# Altium integrated library ISEN_basics_15-02-2023.IntLib: 282 symbols (part 1 of 2)
Pins are listed as number, name and electrical type; pins without a type are passive.

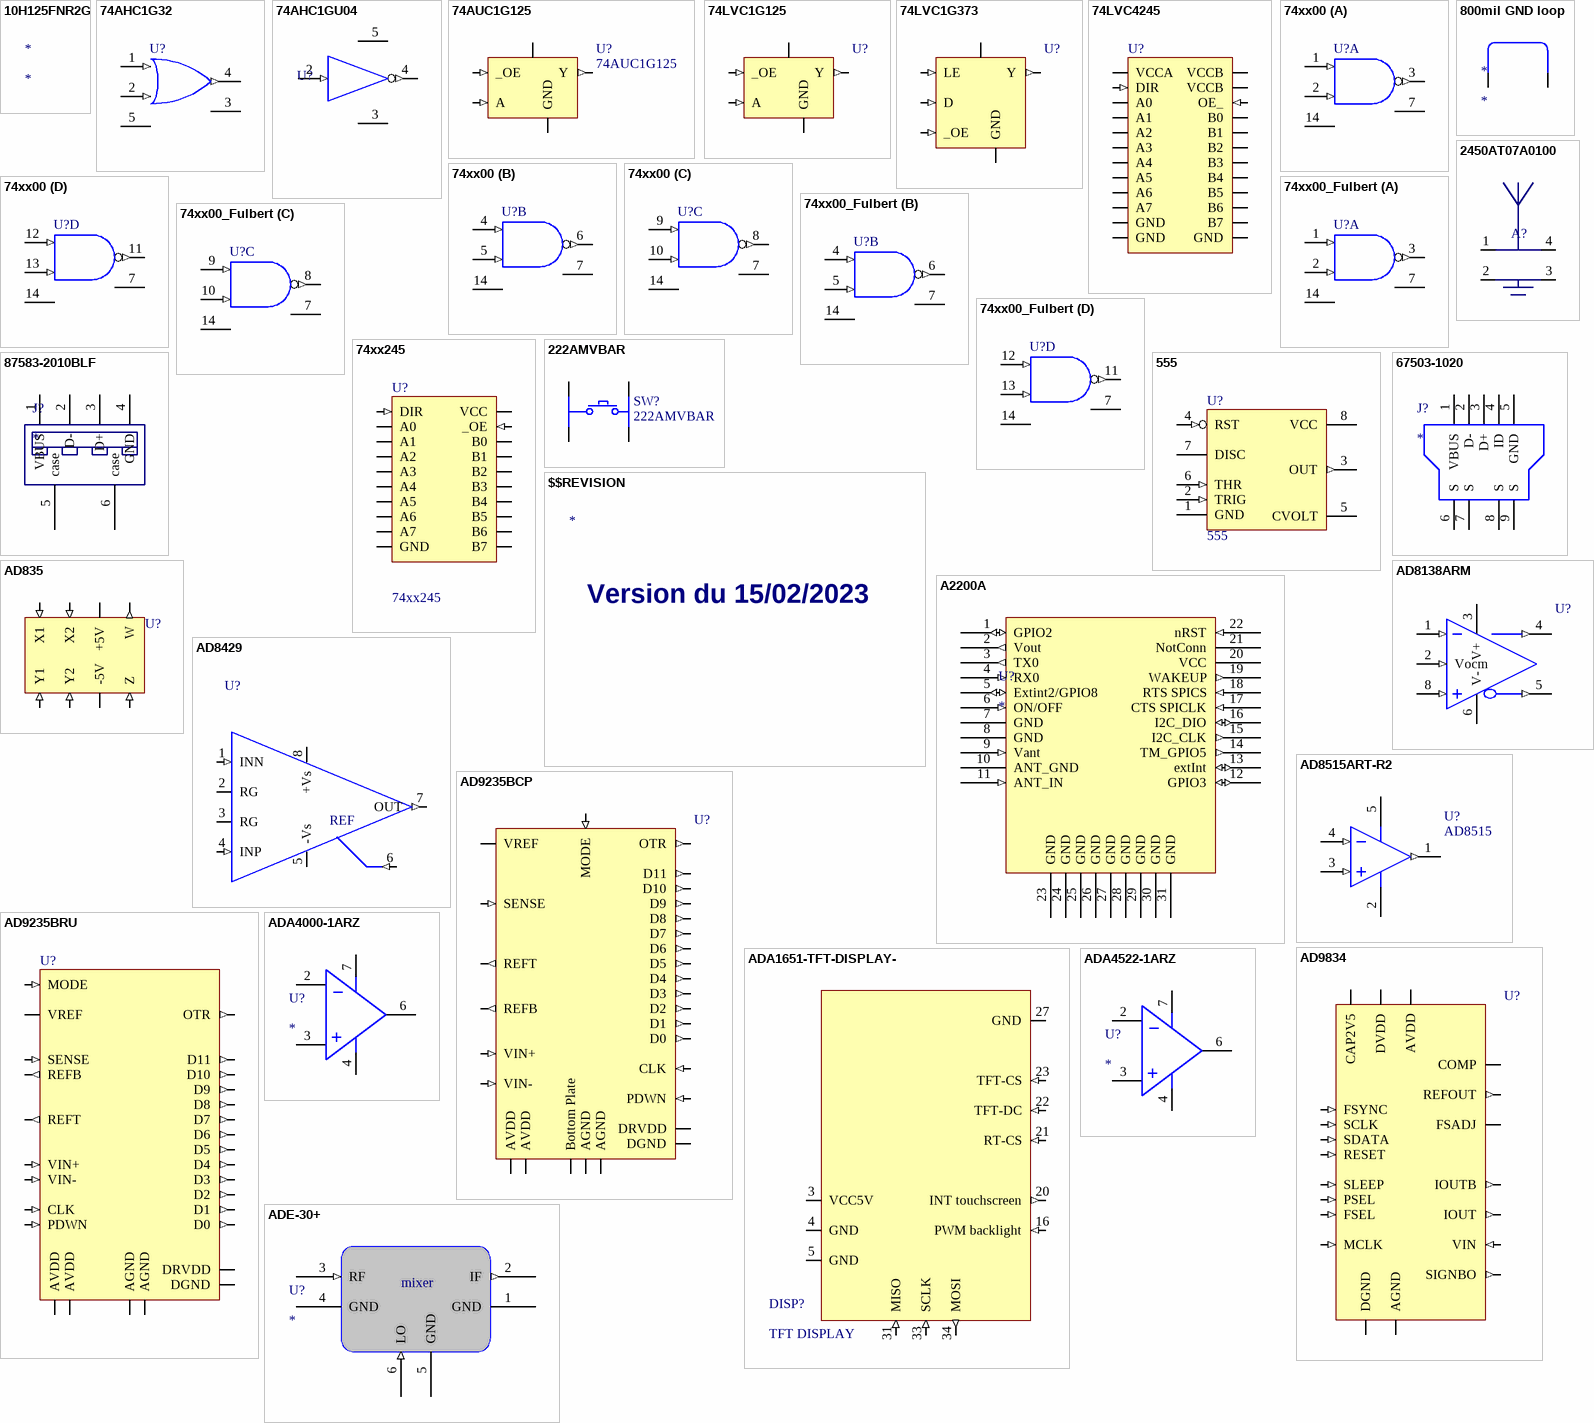
[diagram p0: symbols 10H125FNR2G to ADE-30+]

## 10H125FNR2G
designator *

## 74AHC1G32
designator U?
single 2-Input OR Gate; Manufacturer: Texas Instruments; Class I: Logic; Published: 8-Jun-2000; Revision: July-2002: Re-released for DXP Platform.; Datasheet: Latest Revision: Mar-1988; Package Reference: J014; Publisher: Altium Limited; Class II: Gate
footprint SOT353-1
pins: 1 A (in), 2 B (in), 3 GND (power) hidden to GND, 4 Y (out), 5 VCC (power) hidden to VCC

## 74AHC1GU04
designator U?
single inverter; Manufacturer: Texas Instruments; Class I: Logic; Class II: Gate; Published: 8-Jun-2000; Revision: July-2002: Re-released for DXP Platform.; Datasheet: Latest Revision: Mar-1988; Package Reference: J014; Publisher: Altium Limited
footprint SOT353-1
pins: 2 B (in), 3 GND (power) hidden to GND, 4 Y (out), 5 VCC (power) hidden to VCC

## 74AUC1G125
designator U?
footprint sc70
footprint sot23 - 5
pins: 1 _OE (in), 2 A (in), 3 GND (power), 4 Y (out), 5 VCC (power)

## 74LVC1G125
designator U?
footprint SOT353-1
footprint SOT25
pins: 1 _OE (in), 2 A (in), 3 GND (power), 4 Y (out), 5 VCC (power)

## 74LVC1G373
designator U?
footprint TI_DCK6
pins: 1 LE (in), 2 GND (power), 3 D (in), 4 Y (out), 5 VCC (power), 6 _OE (in)

## 74LVC4245
designator U?
footprint SO24
pins: 1 VCCA (power), 2 DIR (in), 3 A0 (io), 4 A1 (io), 5 A2 (io), 6 A3 (io), 7 A4 (io), 8 A5 (io), 9 A6 (io), 10 A7 (io), 11 GND (power), 12 GND (power), 13 GND (power), 14 B7 (io), 15 B6 (io), 16 B5 (io), 17 B4 (io), 18 B3 (io), 19 B2 (io), 20 B1 (io), 21 B0 (io), 22 OE_ (in), 23 VCCB (power), 24 VCCB (power)

## 74xx00
designator U?
Quadruple 2-Input Positive-NAND Gate; Manufacturer: Texas Instruments; Class I: Logic; Published: 8-Jun-2000; Revision: July-2002: Re-released for DXP Platform.; Datasheet: Latest Revision: Mar-1988; Package Reference: J014; Publisher: Altium Limited; Class II: Gate
footprint DIP14
signal-integrity model SN5400J
footprint SO14
footprint TSSOP14
pins on every part: 7 GND (power) hidden to GND, 14 VCC (power) hidden to VCC
part A pins: 1 A (in), 2 B (in), 3 Y (out)
part B pins: 4 A (in), 5 B (in), 6 Y (out)
part C pins: 8 Y (out), 9 A (in), 10 B (in)
part D pins: 11 Y (out), 12 A (in), 13 B (in)

## 74xx00_Fulbert
designator U?
Quadruple 2-Input Positive-NAND Gate; Manufacturer: Texas Instruments; Class I: Logic; Published: 8-Jun-2000; Revision: July-2002: Re-released for DXP Platform.; Datasheet: Latest Revision: Mar-1988; Package Reference: J014; Publisher: Altium Limited; Class II: Gate
footprint DIP14
signal-integrity model SN5400J
footprint SO14
footprint TSSOP14
pins on every part: 7 GND (power) hidden to GND, 14 VDD2V5 (power) hidden to VCC
part A pins: 1 A (in), 2 B (in), 3 Y (out)
part B pins: 4 A (in), 5 B (in), 6 Y (out)
part C pins: 8 Y (out), 9 A (in), 10 B (in)
part D pins: 11 Y (out), 12 A (in), 13 B (in)

## 74xx245
designator U?
footprint SO20
pins: 1 DIR (in), 2 A0 (io), 3 A1 (io), 4 A2 (io), 5 A3 (io), 6 A4 (io), 7 A5 (io), 8 A6 (io), 9 A7 (io), 10 GND (power), 11 B7 (io), 12 B6 (io), 13 B5 (io), 14 B4 (io), 15 B3 (io), 16 B2 (io), 17 B1 (io), 18 B0 (io), 19 _OE (in), 20 VCC (power)

## 222AMVBAR
designator SW?
footprint 222AMVBAR
pins: 1, 2, 3, 4

## 555
designator U?
timer 555 générique
footprint DIP8
footprint SO8
pins: 1 GND (power), 2 TRIG (in), 3 OUT (out), 4 RST (in), 5 CVOLT, 6 THR (in), 7 DISC (oc), 8 VCC (power)

## 800mil GND loop
designator *
footprint 800MIL_GND_LOOP
pins: 1, 2

## 2450AT07A0100
designator A?  (value not drawn)
footprint 2450AT07A0100
pins: 1, 2, 3, 4

## 67503-1020
designator J?
Connector; Manufacturer_Name: Molex; Manufacturer_Part_Number: 67503-1020; Datasheet Link: http://docs-emea.rs-online.com/webdocs/13c4/0900766b813c46de.pdf; Mouser Part Number: 538-67503-1020; Mouser Price/Stock: https://www.mouser.com/Search/Refine.aspx?Keyword=538-67503-1020; RS Part Number: 6661099P; RS Price/Stock: http://uk.rs-online.com/web/p/products/6661099P
footprint 67503-1020
pins: 1 VBUS, 2 D-, 3 D+, 4 ID, 5 GND, 6 S, 7 S, 8 S, 9 S

## 87583-2010BLF
designator J?
Connector; Manufacturer_Name: FCI; Manufacturer_Part_Number: 87583-2010BLF; Allied_Number: 70236897; Datasheet Link: http://docs-emea.rs-online.com/webdocs/118e/0900766b8118e6e2.pdf; Mouser Part Number: 649-87583-2010BLF; Mouser Price/Stock: https://www.mouser.com/Search/Refine.aspx?Keyword=649-87583-2010BLF; RS Part Number: 1622060; RS Price/Stock: http://uk.rs-online.com/web/p/products/1622060; Allied Price/Stock: http://www.alliedelec.com/amphenol-fci-87583-2010blf/70236897/
footprint 87583-2010BLF
pins: 1 VBUS, 2 D-, 3 D+, 4 GND, 5 case, 6 case

## $$REVISION
designator *
text: Version du 15/02/2023

## A2200A
designator U?
GPS MODULE (w/o antenna)
footprint A2200A
pins: 1 GPIO2 (io), 2 Vout (out), 3 TX0 (out), 4 RX0 (in), 5 Extint2/GPIO8 (io), 6 ON/OFF (in), 7 GND (power), 8 GND (power), 9 Vant (in), 10 ANT_GND (power), 11 ANT_IN (in), 12 GPIO3 (io), 13 extInt (io), 14 TM_GPIO5 (out), 15 I2C_CLK (out), 16 I2C_DIO (io), 17 CTS SPICLK (in), 18 RTS SPICS (in), 19 WAKEUP (out), 20 VCC (power), 21 NotConn, 22 nRST (in), 23 GND (power), 24 GND (power), 25 GND (power), 26 GND (power), 27 GND (power), 28 GND (power), 29 GND (power), 30 GND (power), 31 GND (power)

## AD835
designator U?
analog multiplier
footprint dip8
pins: 1 Y1 (in), 2 Y2 (in), 3 -5V, 4 Z (in), 5 W (out), 6 +5V, 7 X2 (in), 8 X1 (in)

## AD8138ARM
designator U?
AOP simple usage général
footprint MSOP8
pins: 1 (in), 2 Vocm (in), 3 V+ (power), 4 (out), 5 (out), 6 V- (power), 8 (in)

## AD8429
designator U?  (value not drawn)
differential amplifier
footprint AnalogDevices_R8
pins: 1 INN (in), 2 RG, 3 RG, 4 INP (in), 5 -Vs (power), 6 (in), 7 OUT (out), 8 +Vs (power)
text: REF

## AD8515ART-R2
designator U?, comment AD8515
AOP simple usage général
footprint SOT23 - 5
pins: 1 OUT (out), 2 V- (power), 3 IN+ (in), 4 IN- (in), 5 V+ (power)

## AD9235BCP
designator U?
footprint CP-32-2
pins: 2 CLK (in), 4 PDWN (in), 7 D0 (out), 8 D1 (out), 9 D2 (out), 10 D3 (out), 11 D4 (out), 12 D5 (out), 13 D6 (out), 14 D7 (out), 15 DGND (power), 16 DRVDD (power), 17 D8 (out), 18 D9 (out), 19 D10 (out), 20 D11 (out), 21 OTR (out), 22 MODE (in), 23 SENSE (in), 24 VREF (io), 25 REFB (out), 26 REFT (out), 27 AVDD (power), 28 AGND (power), 29 VIN+ (in), 30 VIN- (in), 31 AGND (power), 32 AVDD (power), 33 Bottom Plate

## AD9235BRU
designator U?
footprint SSOP28
pins: 1 OTR (out), 2 MODE (in), 3 SENSE (in), 4 VREF (io), 5 REFB (out), 6 REFT (out), 7 AVDD (power), 8 AGND (power), 9 VIN+ (in), 10 VIN- (in), 11 AGND (power), 12 AVDD (power), 13 CLK (in), 14 PDWN (in), 15 D0 (out), 16 D1 (out), 17 D2 (out), 18 D3 (out), 19 D4 (out), 20 D5 (out), 21 D6 (out), 22 D7 (out), 23 DGND (power), 24 DRVDD (power), 25 D8 (out), 26 D9 (out), 27 D10 (out), 28 D11 (out)

## AD9834
designator U?
DDS
footprint TSSOP20
pins: 1 FSADJ, 2 REFOUT (out), 3 COMP, 4 AVDD, 5 DVDD, 6 CAP2V5, 7 DGND, 8 MCLK (in), 9 FSEL (in), 10 PSEL (in), 11 RESET (in), 12 SLEEP (in), 13 SDATA (in), 14 SCLK (in), 15 FSYNC (in), 16 SIGNBO (out), 17 VIN (in), 18 AGND, 19 IOUT (out), 20 IOUTB (out)

## ADA1651-TFT-DISPLAY-
designator DISP?, comment TFT DISPLAY
footprint AFFICHEUR-TFT
pins: 3 VCC5V (power), 4 GND (power), 5 GND (power), 16 PWM backlight (in), 20 INT touchscreen (out), 21 RT-CS (in), 22 TFT-DC (in), 23 TFT-CS (in), 27 GND (power), 31 MISO (in), 33 SCLK (in), 34 MOSI (out)

## ADA4000-1ARZ
designator U?
footprint AnalogDevices_R8
pins: 2, 3, 4 V- (power), 6, 7 V+ (power)

## ADA4522-1ARZ
designator U?
footprint AnalogDevices_R8
pins: 2, 3, 4 V- (power), 6, 7 V+ (power)

## ADE-30+
designator U?
200MHz-3GHz mixer
footprint minicircuits-CD542
pins: 1 GND (power), 2 IF (out), 3 RF (in), 4 GND (power), 5 GND (power), 6 LO (in)
text: mixer

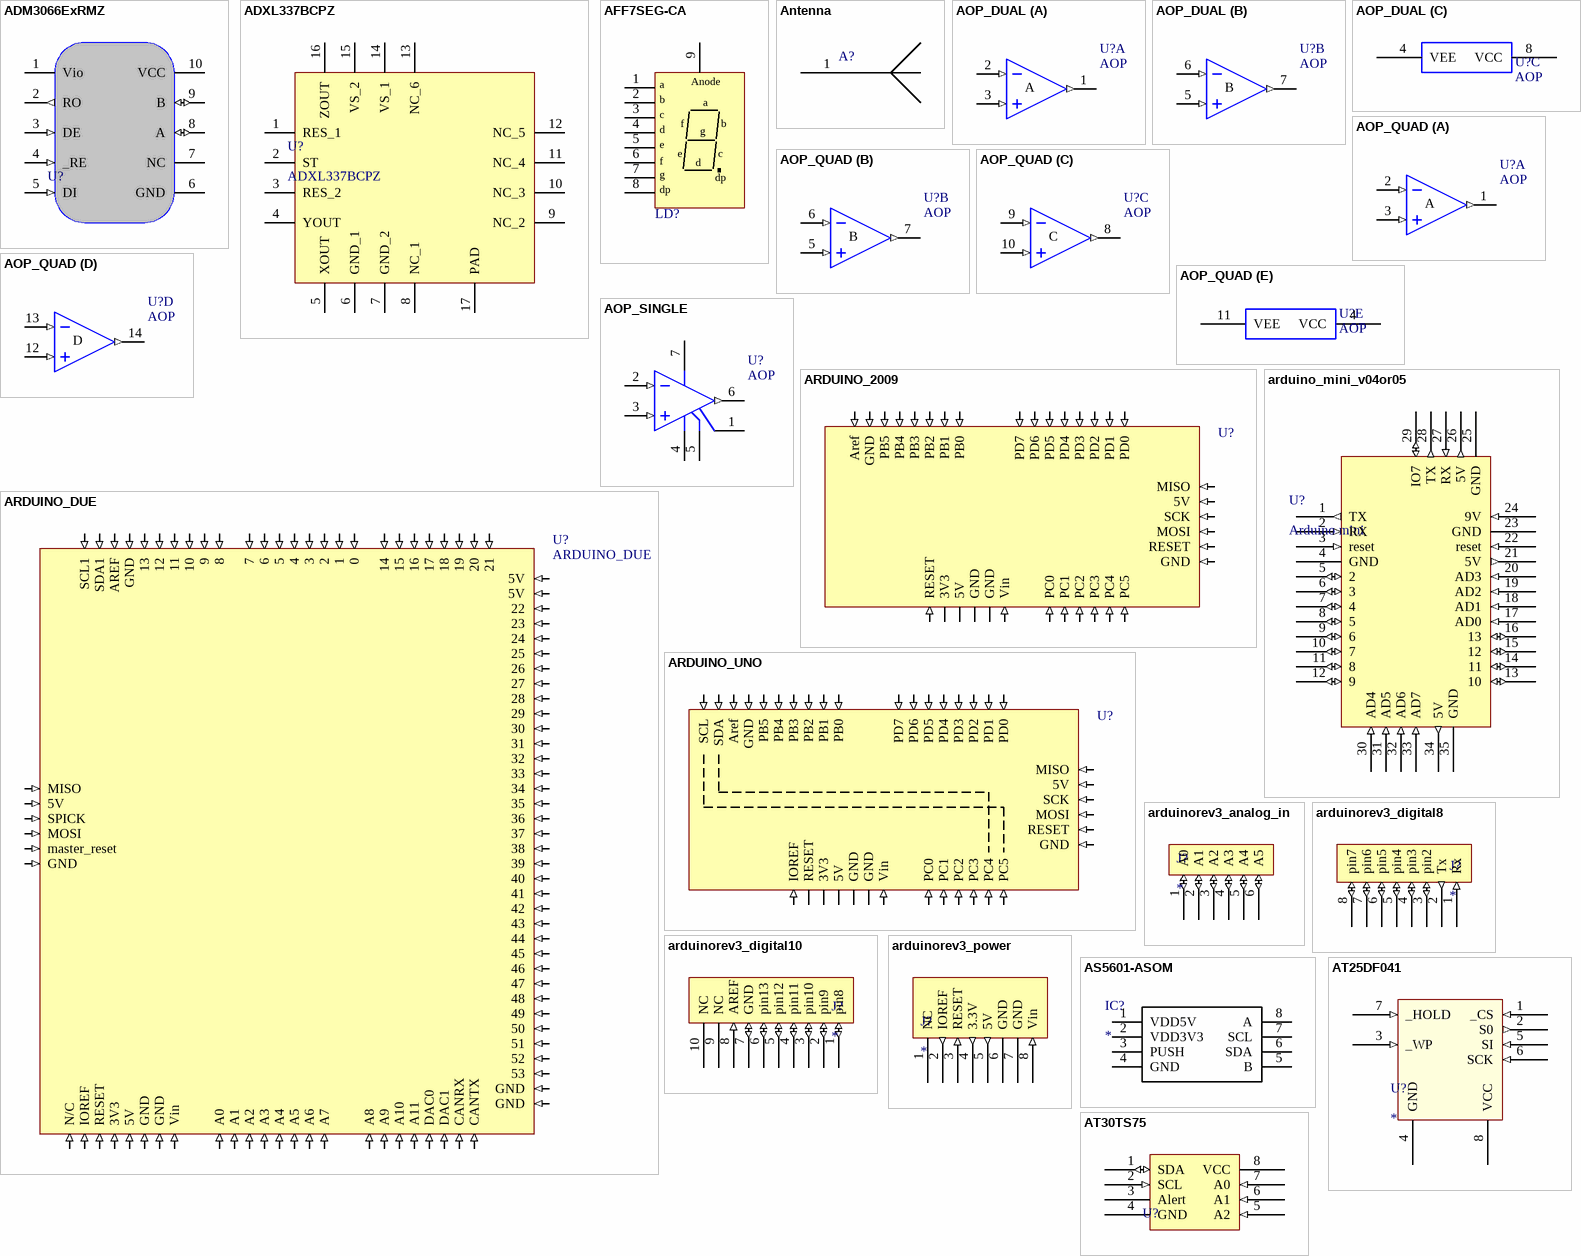
[diagram p1: symbols ADM3066ExRMZ to AT30TS75]

## ADM3066ExRMZ
designator U?  (value not drawn)
footprint MSOP10
pins: 1 Vio, 2 RO (out), 3 DE (in), 4 _RE (in), 5 DI (in), 6 GND (power), 7 NC, 8 A (io), 9 B (io), 10 VCC (power)

## ADXL337BCPZ
designator U?
RS: 155-3200
footprint QFN50P300X300X150-17N-D
pins: 1 RES_1, 2 ST, 3 RES_2, 4 YOUT, 5 XOUT, 6 GND_1, 7 GND_2, 8 NC_1, 9 NC_2, 10 NC_3, 11 NC_4, 12 NC_5, 13 NC_6, 14 VS_1, 15 VS_2, 16 ZOUT, 17 PAD

## AFF7SEG-CA
designator LD?
footprint AFF7SEG
pins: 1 a, 2 b, 3 c, 4 d, 5 e, 6 f, 7 g, 8 dp, 9 VCC
text: Anode

## Antenna
designator A?  (value not drawn)
pins: 1

## AOP_DUAL
designator U?, comment AOP
AOP double usage général
footprint DIP8
footprint SO8
part A pins: 1 OUT (out), 2 IN- (in), 3 IN+ (in)
part B pins: 5 IN+ (in), 6 IN- (in), 7 OUT (out)
part C pins: 4 VEE (power), 8 VCC
part A text: A
part B text: B

## AOP_QUAD
designator U?, comment AOP
AOP quadruple usage général
footprint DIP14
footprint SO14
part A pins: 1 OUT (out), 2 IN- (in), 3 IN+ (in)
part B pins: 5 IN+ (in), 6 IN- (in), 7 OUT (out)
part C pins: 8 OUT (out), 9 IN- (in), 10 IN+ (in)
part D pins: 12 IN+ (in), 13 IN- (in), 14 OUT (out)
part E pins: 4 VCC (power), 11 VEE (power)
part A text: A
part B text: B
part C text: C
part D text: D

## AOP_SINGLE
designator U?, comment AOP
AOP simple usage général
footprint DIP8
footprint SO8
pins: 1 OS TRIM, 2 IN- (in), 3 IN+ (in), 4 V- (power), 5 OS TRIM, 6 OUT (out), 7 V+ (power)

## ARDUINO_2009
designator U?
footprint ARDUINO_2009
pins: 1 RESET (in), 2 3V3 (power), 3 5V (power), 4 GND (power), 5 GND (power), 6 Vin (in), 7 PC0 (in), 8 PC1 (in), 9 PC2 (in), 10 PC3 (in), 11 PC4 (in), 12 PC5 (in), 13 PD0 (in), 14 PD1 (in), 15 PD2 (in), 16 PD3 (in), 17 PD4 (in), 18 PD5 (in), 19 PD6 (in), 20 PD7 (in), 21 PB0 (in), 22 PB1 (in), 23 PB2 (in), 24 PB3 (in), 25 PB4 (in), 26 PB5 (in), 27 GND (in), 28 Aref (in), 29 MISO (in), 30 5V (in), 31 SCK (in), 32 MOSI (in), 33 RESET (in), 34 GND (in)

## ARDUINO_DUE
designator U?
footprint ARDUINO_DUE
pins: 1 SCL1 (in), 2 SDA1 (in), 3 AREF (in), 4 GND (in), 5 13 (in), 6 12 (in), 7 11 (in), 8 10 (in), 9 (in), 10 8 (in), 11 7 (in), 12 6 (in), 13 5 (in), 14 4 (in), 15 3 (in), 16 2 (in), 17 1 (in), 18 0 (in), 19 14 (in), 20 15 (in), 21 16 (in), 22 17 (in), 23 18 (in), 24 19 (in), 25 20 (in), 26 21 (in), 27 5V (in), 28 5V (in), 29 22 (in), 30 23 (in), 31 24 (in), 32 25 (in), 33 26 (in), 34 27 (in), 35 28 (in), 36 29 (in), 37 30 (in), 38 31 (in), 39 32 (in), 40 33 (in), 41 34 (in), 42 35 (in), 43 36 (in), 44 37 (in), 45 38 (in), 46 39 (in), 47 40 (in), 48 41 (in), 49 42 (in), 50 43 (in), 51 44 (in), 52 45 (in), 53 46 (in), 54 47 (in), 55 48 (in), 56 49 (in), 57 50 (in), 58 51 (in), 59 52 (in), 60 53 (in), 61 GND (in), 62 GND (in), 63 CANTX (in), 64 CANRX (in), 65 DAC1 (in), 66 DAC0 (in), 67 A11 (in), 68 A10 (in), 69 A9 (in), 70 A8 (in), 71 A7 (in), 72 A6 (in), 73 A5 (in), 74 A4 (in), 75 A3 (in), 76 A2 (in), 77 A1 (in), 78 A0 (in), 79 Vin (in), 80 GND (in), 81 GND (in), 82 5V (in), 83 3V3 (in), 84 RESET (in), 85 IOREF (in), 86 N/C (in), 87 MISO (in), 88 5V (in), 89 SPICK (in), 90 MOSI (in), 91 master_reset (in), 92 GND (in)

## arduino_mini_v04or05
designator U?, comment Arduino mini
Arduino mini V4 or V5
footprint arduino_mini
pins: 1 TX (out), 2 RX (in), 3 reset (in), 4 GND (power), 5 2 (io), 6 3 (io), 7 4 (io), 8 5 (io), 9 6 (io), 10 7 (io), 11 8 (io), 12 9 (io), 13 10 (io), 14 11 (io), 15 12 (io), 16 13 (io), 17 AD0 (in), 18 AD1 (in), 19 AD2 (in), 20 AD3 (in), 21 5V (out), 22 reset (in), 23 GND, 24 9V (in), 25 GND (oe), 26 5V (out), 27 RX (in), 28 TX (out), 29 IO7 (io), 30 AD4 (in), 31 AD5 (in), 32 AD6 (in), 33 AD7 (in), 34 5V (out), 35 GND (power)

## ARDUINO_UNO
designator U?  (value not drawn)
footprint ARDUINO_UNO
footprint ARDUINO_UNO_SHIELD
pins: 0 IOREF (in), 1 RESET (io), 2 3V3 (power), 3 5V (power), 4 GND (power), 5 GND (power), 6 Vin (in), 7 PC0 (in), 8 PC1 (in), 9 PC2 (in), 10 PC3 (in), 11 PC4 (in), 12 PC5 (in), 13 PD0 (in), 14 PD1 (in), 15 PD2 (in), 16 PD3 (in), 17 PD4 (in), 18 PD5 (in), 19 PD6 (in), 20 PD7 (in), 21 PB0 (in), 22 PB1 (in), 23 PB2 (in), 24 PB3 (in), 25 PB4 (in), 26 PB5 (in), 27 GND (in), 28 Aref (in), 29 SDA (in), 30 SCL (in), 31 MISO (in), 32 5V (in), 33 SCK (in), 34 MOSI (in), 35 RESET (in), 36 GND (in)

## arduinorev3_analog_in
designator J?
footprint arduino6
pins: 1 A0 (io), 2 A1 (io), 3 A2 (io), 4 A3 (io), 5 A4 (io), 6 A5 (io)

## arduinorev3_digital8
designator J?
footprint arduino8
pins: 1 Rx (in), 2 Tx (out), 3 pin2 (io), 4 pin3 (io), 5 pin4 (io), 6 pin5 (io), 7 pin6 (io), 8 pin7 (io)

## arduinorev3_digital10
designator J?
footprint arduino10
pins: 1 pin8 (io), 2 pin9 (io), 3 pin10 (io), 4 pin11 (io), 5 pin12 (io), 6 pin13 (io), 7 GND (io), 8 AREF (in), 9 NC, 10 NC

## arduinorev3_power
designator J?
footprint arduino_power
pins: 1 NC, 2 IOREF (out), 3 RESET (in), 4 3.3V (out), 5 5V (out), 6 GND (power), 7 GND (power), 8 Vin (in)

## AS5601-ASOM
designator IC?
Integrated Circuit; Manufacturer_Name: ams; Manufacturer_Part_Number: AS5601-ASOM; Datasheet Link: http://ams.com/eng/content/download/659003/1738497/343455.pdf; Height: 1.75mm; Mouser Part Number: 985-AS5601-ASOM; Mouser Price/Stock: https://www.mouser.com/Search/Refine.aspx?Keyword=985-AS5601-ASOM; RS Part Number: 1700757; RS Price/Stock: http://uk.rs-online.com/web/p/products/1700757
footprint SOIC127P600X175-8N
pins: 1 VDD5V (power), 2 VDD3V3 (power), 3 PUSH, 4 GND (power), 5 B, 6 SDA, 7 SCL, 8 A

## AT25DF041
designator U?
Flash 512k*8
footprint so8
pins: 1 _CS (in), 2 S0 (out), 3 _WP (in), 4 GND (power), 5 SI (in), 6 SCK (in), 7 _HOLD (in), 8 VCC (power)

## AT30TS75
designator U?  (value not drawn)
footprint SO8
pins: 1 SDA (io), 2 SCL (in), 3 Alert (oc), 4 GND (power), 5 A2 (in), 6 A1 (in), 7 A0 (in), 8 VCC (power)

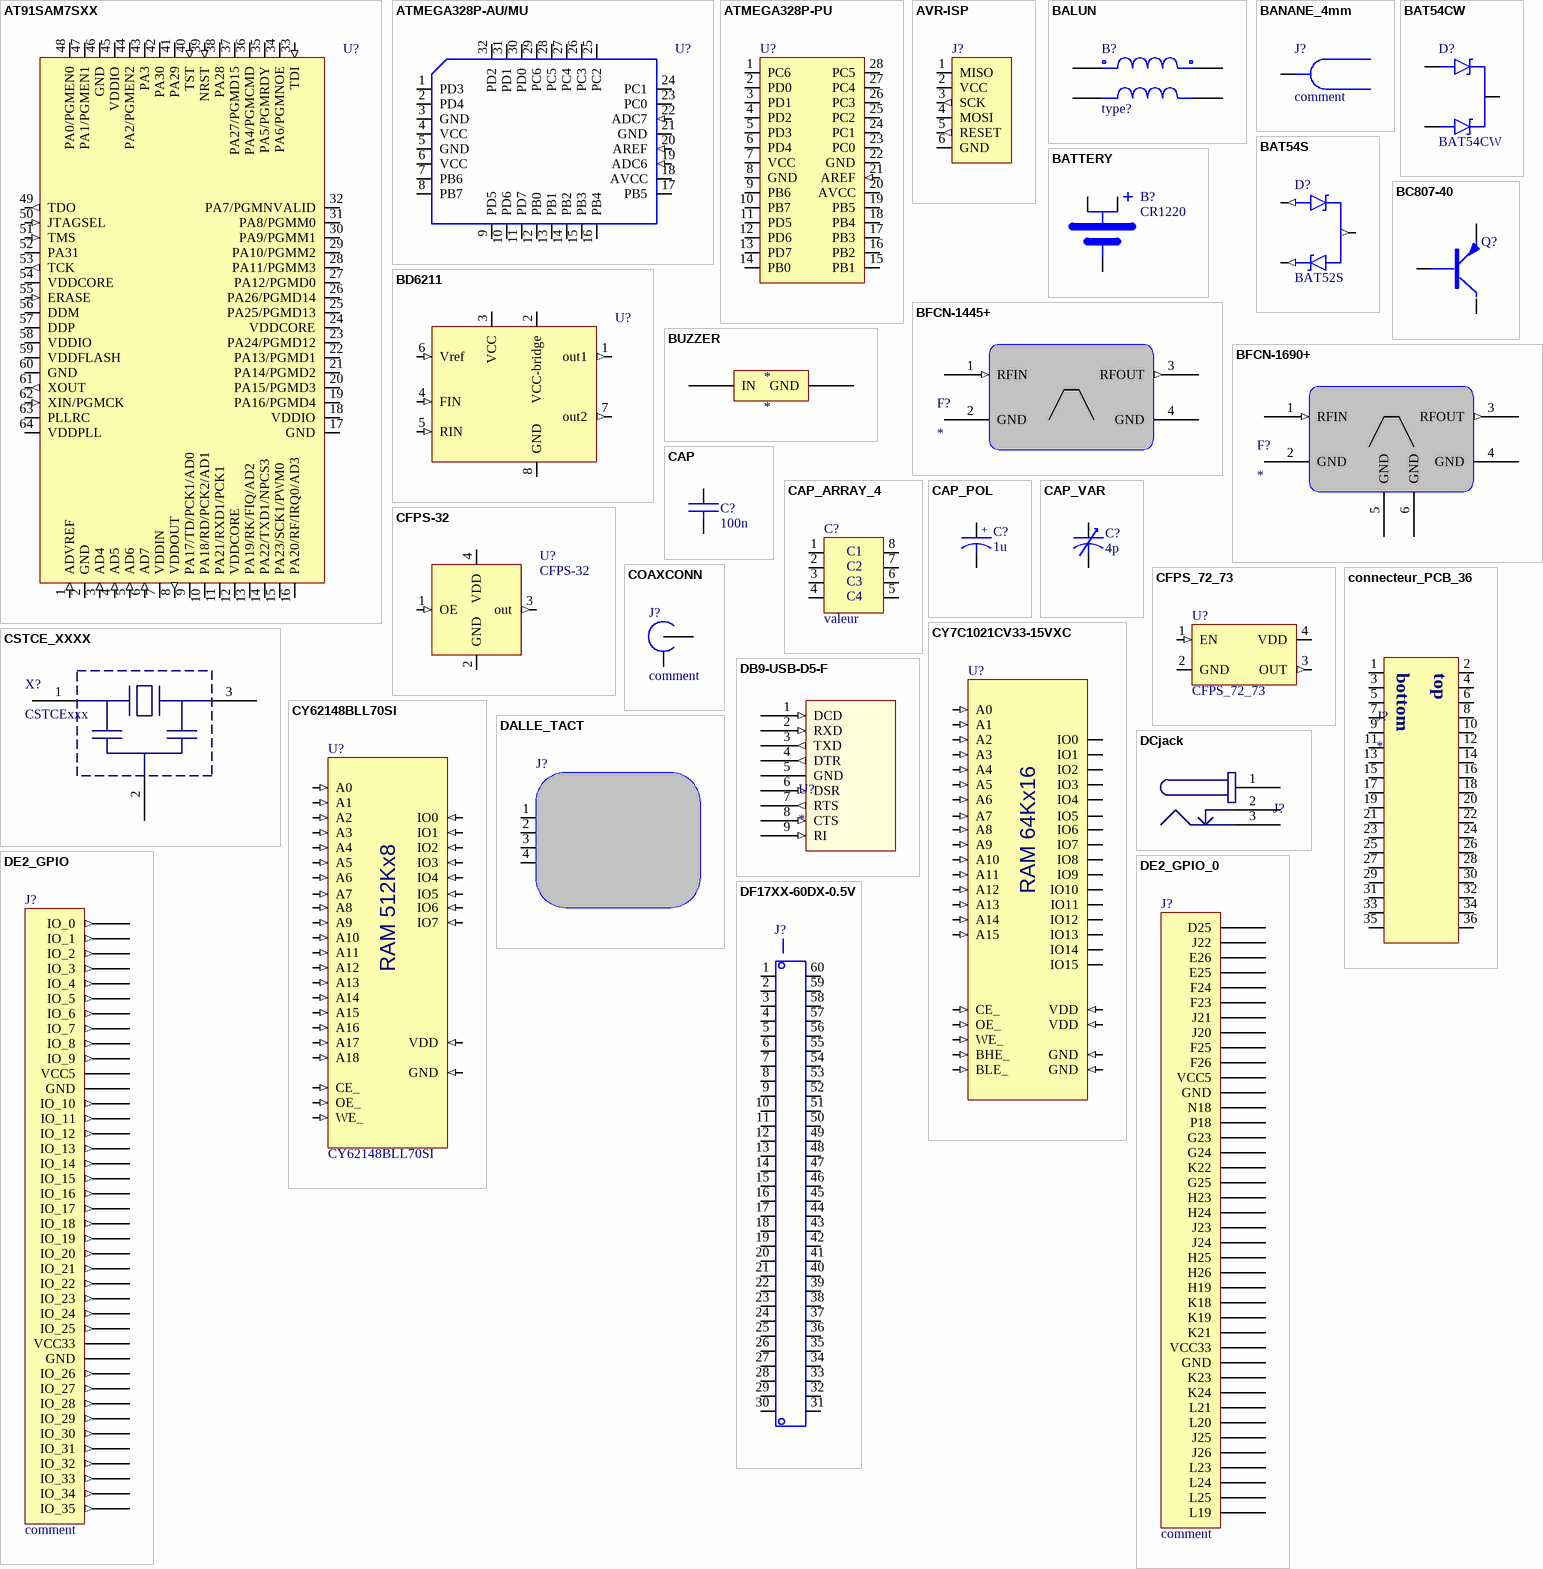
[diagram p2: symbols AT91SAM7SXX to DF17XX-60DX-0.5V]

## AT91SAM7SXX
designator U?
footprint LQFP64
pins: 1 ADVREF (in), 2 GND (power), 3 AD4 (in), 4 AD5 (in), 5 AD6 (in), 6 AD7 (in), 7 VDDIN (power), 8 VDDOUT (out), 9 PA17/TD/PCK1/AD0 (io), 10 PA18/RD/PCK2/AD1 (io), 11 PA21/RXD1/PCK1 (io), 12 VDDCORE (power), 13 PA19/RK/FIQ/AD2 (io), 14 PA22/TXD1/NPCS3 (io), 15 PA23/SCK1/PWM0 (io), 16 PA20/RF/IRQ0/AD3 (io), 17 GND (power), 18 VDDIO (power), 19 PA16/PGMD4 (io), 20 PA15/PGMD3 (io), 21 PA14/PGMD2 (io), 22 PA13/PGMD1 (io), 23 PA24/PGMD12 (io), 24 VDDCORE (power), 25 PA25/PGMD13 (io), 26 PA26/PGMD14 (io), 27 PA12/PGMD0 (io), 28 PA11/PGMM3 (io), 29 PA10/PGMM2 (io), 30 PA9/PGMM1 (io), 31 PA8/PGMM0 (io), 32 PA7/PGMNVALID (io), 33 TDI (in), 34 PA6/PGMNOE (io), 35 PA5/PGMRDY (io), 36 PA4/PGMCMD (io), 37 PA27/PGMD15 (io), 38 PA28 (io), 39 NRST (in), 40 TST (in), 41 PA29 (io), 42 PA30 (io), 43 PA3 (io), 44 PA2/PGMEN2 (io), 45 VDDIO (power), 46 GND (power), 47 PA1/PGMEN1 (io), 48 PA0/PGMEN0 (io), 49 TDO (out), 50 JTAGSEL (in), 51 TMS (in), 52 PA31 (io), 53 TCK (out), 54 VDDCORE (power), 55 ERASE (in), 56 DDM (io), 57 DDP (io), 58 VDDIO (power), 59 VDDFLASH (power), 60 GND (power), 61 XOUT (out), 62 XIN/PGMCK (in), 63 PLLRC (io), 64 VDDPLL (power)

## ATMEGA328P-AU/MU
designator U?
footprint TQFP32
footprint LQFP32
pins: 1 PD3 (io), 2 PD4 (io), 3 GND (power), 4 VCC (power), 5 GND (power), 6 VCC (power), 7 PB6 (io), 8 PB7 (io), 9 PD5 (io), 10 PD6 (io), 11 PD7 (io), 12 PB0 (io), 13 PB1 (io), 14 PB2 (io), 15 PB3 (io), 16 PB4 (io), 17 PB5 (io), 18 AVCC (power), 19 ADC6 (in), 20 AREF (in), 21 GND (power), 22 ADC7 (in), 23 PC0 (io), 24 PC1 (io), 25 PC2 (io), 26 PC3 (io), 27 PC4 (io), 28 PC5 (io), 29 PC6 (io), 30 PD0 (io), 31 PD1 (io), 32 PD2 (io)

## ATMEGA328P-PU
designator U?
footprint DIP28_300
pins: 1 PC6 (io), 2 PD0 (io), 3 PD1 (io), 4 PD2 (io), 5 PD3 (io), 6 PD4 (io), 7 VCC (power), 8 GND (power), 9 PB6 (io), 10 PB7 (io), 11 PD5 (io), 12 PD6 (io), 13 PD7 (io), 14 PB0 (io), 15 PB1 (io), 16 PB2 (io), 17 PB3 (io), 18 PB4 (io), 19 PB5 (io), 20 AVCC (power), 21 AREF (in), 22 GND (power), 23 PC0 (io), 24 PC1 (io), 25 PC2 (io), 26 PC3 (io), 27 PC4 (io), 28 PC5 (io)

## AVR-ISP
designator J?
AVR ISP 6 pin connector
footprint AVRISPHE6V
footprint AVRISPHE10H
footprint AVRISPHE10V
pins: 1 MISO (io), 2 VCC (power), 3 SCK (out), 4 MOSI (io), 5 RESET (out), 6 GND (power)

## BALUN
designator B?, comment type?
footprint TC1-1-13M
pins: 1, 2, 3, 4

## BANANE_4mm
designator J?, comment comment
footprint BANANE4-2
footprint banane4
pins: 1

## BAT54CW
designator D?
footprint SOT323
pins: 1, 2, 3

## BAT54S
designator D?, comment BAT52S
footprint SOT23
pins: 1 (out), 2 (out), 3 (out)

## BATTERY
designator B?, comment CR1220
footprint KEYSTONE3001
pins: 0, 1, 2

## BC807-40
designator Q?
footprint SOT23
pins: 1, 2, 3

## BD6211
designator U?
footprint SO8
pins: 1 out1 (out), 2 VCC-bridge (power), 3 VCC (power), 4 FIN (in), 5 RIN (in), 6 Vref (in), 7 out2 (out), 8 GND (power)

## BFCN-1445+
designator F?
1.42-1.47GHz band-pass filter
footprint minicircuits-FV1206
pins: 1 RFIN (in), 2 GND (power), 3 RFOUT (out), 4 GND (power)

## BFCN-1690+
designator F?
1.57-1.81GHz band-pass filter
footprint minicircuits-FV1206-1
pins: 1 RFIN (in), 2 GND (power), 3 RFOUT (out), 4 GND (power), 5 GND (power), 6 GND (power)

## BUZZER
designator *
footprint BUZZER
pins: 1 IN, 2 GND

## CAP
designator C?  value 100n
capacité non polarisée
footprint 0805
footprint 1206
footprint RAD0.1
footprint RAD0.2
footprint 0603
footprint RAD0.4
simulation model CAPACITOR (Model Description)
footprint RAD0.3
footprint 0402
footprint rad0.3-H316101
footprint 1210
pins: 1, 2

## CAP_ARRAY_4
designator C?, comment valeur
footprint GNM214(0805)
footprint GNM314(1206)
pins: 1, 2, 3, 4, 5, 6, 7, 8
text: C1; C2; C3; C4

## CAP_POL
designator C?  value 1u
capacité polarisée
footprint 293D/B
footprint 293D/D
footprint 293D/A
footprint 293D/C
footprint RB.2/.2
footprint RB.2/.4
footprint RB.3/.6
footprint RB.4/.8
footprint RB.1/.2
footprint POLAR0.6
footprint POLAR0.8
footprint POLAR1.0
footprint POLAR1.2
simulation model Model Name (Model Description)
footprint POLAR1.4
footprint RB.4/1.0
footprint ALS40-H
footprint H22/42 (montage horizontal)
footprint RB.3/.75
footprint 0606_vishay
pins: 1, 2
text: +

## CAP_VAR
designator C?  value 4p
capacité variable
footprint TZV02
simulation model Model Name (Model Description)
pins: 1, 2

## CFPS-32
designator U?
oscillator
footprint FOX-HC53
pins: 1 OE (in), 2 GND (power), 3 out (out), 4 VDD (power)

## CFPS_72_73
designator U?
SMD CLOCK OSC 7x5
footprint FOX-HC73
pins: 1 EN (in), 2 GND (power), 3 OUT (out), 4 VDD (power)

## COAXCONN
designator J?, comment comment
SMA/BNC Horizontal/ vertical Connector
footprint SMAH
footprint SMAV
footprint BNCH
footprint BNCV
footprint SMAHPCB
footprint SMAHPCB_RO4003_200u
footprint BNCV2
footprint SMAV2
footprint BNCV-TE5-1634506-1
footprint SMA_RS_526-5791
footprint BNV_H_panneau_RS700-9423
pins: 1, 2, 3, 4, 5

## connecteur_PCB_36
designator J?
RS: 681-2238; mfg: TE Connectivity; mfg. ref.: 5530843-3
footprint 5530843-3
footprint 5530843-3_socket
pins: 1, 2, 3, 4, 5, 6, 7, 8, 9, 10, 11, 12, 13, 14, 15, 16, 17, 18, 19, 20, 21, 22, 23, 24, 25, 26, 27, 28, 29, 30, 31, 32, 33, 34, 35, 36
text: bottom; top

## CSTCE_XXXX
designator X?, comment CSTCExxx
Murata CSTCE resonators series
footprint CSTCE_RES
pins: 1, 2, 3

## CY7C1021CV33-15VXC
designator U?
footprint SOJ44
pins: 1 A4 (in), 2 A3 (in), 3 A2 (in), 4 A1 (in), 5 A0 (in), 6 CE_ (in), 7 IO0 (io), 8 IO1 (io), 9 IO2 (io), 10 IO3 (io), 11 VDD (in), 12 GND (in), 13 IO4 (io), 14 IO5 (io), 15 IO6 (io), 16 IO7 (io), 17 WE_ (in), 18 A15 (in), 19 A14 (in), 20 A13 (in), 21 A12 (in), 24 A11 (in), 25 A10 (in), 26 A9 (in), 27 A8 (in), 29 IO8 (io), 30 IO9 (io), 31 IO10 (io), 32 IO11 (io), 33 VDD (in), 34 GND (in), 35 IO12 (io), 36 IO13 (io), 37 IO14 (io), 38 IO15 (io), 39 BLE_ (in), 40 BHE_ (in), 41 OE_ (in), 42 A7 (in), 43 A6 (in), 44 A5 (in)
text: RAM 64Kx16

## CY62148BLL70SI
designator U?
footprint SOIC32_450
pins: 1 A17 (in), 2 A16 (in), 3 A14 (in), 4 A12 (in), 5 A7 (in), 6 A6 (in), 7 A5 (in), 8 A4 (in), 9 A3 (in), 10 A2 (in), 11 A1 (in), 12 A0 (in), 13 IO0 (in), 14 IO1 (in), 15 IO2 (in), 16 GND (in), 17 IO3 (in), 18 IO4 (in), 19 IO5 (in), 20 IO6 (in), 21 IO7 (in), 22 CE_ (in), 23 A10 (in), 24 OE_ (in), 25 A11 (in), 26 A9 (in), 27 A8 (in), 28 A13 (in), 29 WE_ (in), 30 A18 (in), 31 A15 (in), 32 VDD (in)
text: RAM 512Kx8

## DALLE_TACT
designator J?
footprint DALLE_TACT
pins: 1 left, 2 bottom, 3 right, 4 top

## DB9-USB-D5-F
designator U?
FTDI USB-RS232 in a DB9 case
footprint DB9-USB-F
pins: 1 DCD (in), 2 RXD (in), 3 TXD (out), 4 DTR (out), 5 GND (power), 6 DSR (in), 7 RTS (out), 8 CTS (in), 9 RI (in)

## DCjack
designator J?  (value not drawn)
footprint DCjack_2mm5
pins: 1, 2, 3

## DE2_GPIO
designator J?, comment comment
ALTERA DE2 GPIO 0 Connector
footprint HE10-40V
footprint HE10-40V-fem-pcb-socket
footprint HE10-40V-lock
pins: 1 IO_0 (out), 2 IO_1 (out), 3 IO_2 (out), 4 IO_3 (out), 5 IO_4 (out), 6 IO_5 (out), 7 IO_6 (out), 8 IO_7 (out), 9 IO_8 (out), 10 IO_9 (out), 11 VCC5, 12 GND, 13 IO_10 (out), 14 IO_11 (out), 15 IO_12 (out), 16 IO_13 (out), 17 IO_14 (out), 18 IO_15 (out), 19 IO_16 (out), 20 IO_17 (out), 21 IO_18 (out), 22 IO_19 (out), 23 IO_20 (out), 24 IO_21 (out), 25 IO_22 (out), 26 IO_23 (out), 27 IO_24 (out), 28 IO_25 (out), 29 VCC33, 30 GND, 31 IO_26 (out), 32 IO_27 (out), 33 IO_28 (out), 34 IO_29 (out), 35 IO_30 (out), 36 IO_31 (out), 37 IO_32 (out), 38 IO_33 (out), 39 IO_34 (out), 40 IO_35 (out)

## DE2_GPIO_0
designator J?, comment comment
ALTERA DE2 GPIO 0 Connector
footprint HE10-40V
footprint HE10-40V-fem-pcb-socket
footprint HE10-40V-lock
pins: 1 D25, 2 J22, 3 E26, 4 E25, 5 F24, 6 F23, 7 J21, 8 J20, 9 F25, 10 F26, 11 VCC5, 12 GND, 13 N18, 14 P18, 15 G23, 16 G24, 17 K22, 18 G25, 19 H23, 20 H24, 21 J23, 22 J24, 23 H25, 24 H26, 25 H19, 26 K18, 27 K19, 28 K21, 29 VCC33, 30 GND, 31 K23, 32 K24, 33 L21, 34 L20, 35 J25, 36 J26, 37 L23, 38 L24, 39 L25, 40 L19

## DF17XX-60DX-0.5V
designator J?
HIROSE FT17 Series
footprint D17XX-60DS-0.5V
footprint D17XX-60DP-0.5V
pins: 1, 2, 3, 4, 5, 6, 7, 8, 9, 10, 11, 12, 13, 14, 15, 16, 17, 18, 19, 20, 21, 22, 23, 24, 25, 26, 27, 28, 29, 30, 31, 32, 33, 34, 35, 36, 37, 38, 39, 40, 41, 42, 43, 44, 45, 46, 47, 48, 49, 50, 51, 52, 53, 54, 55, 56, 57, 58, 59, 60

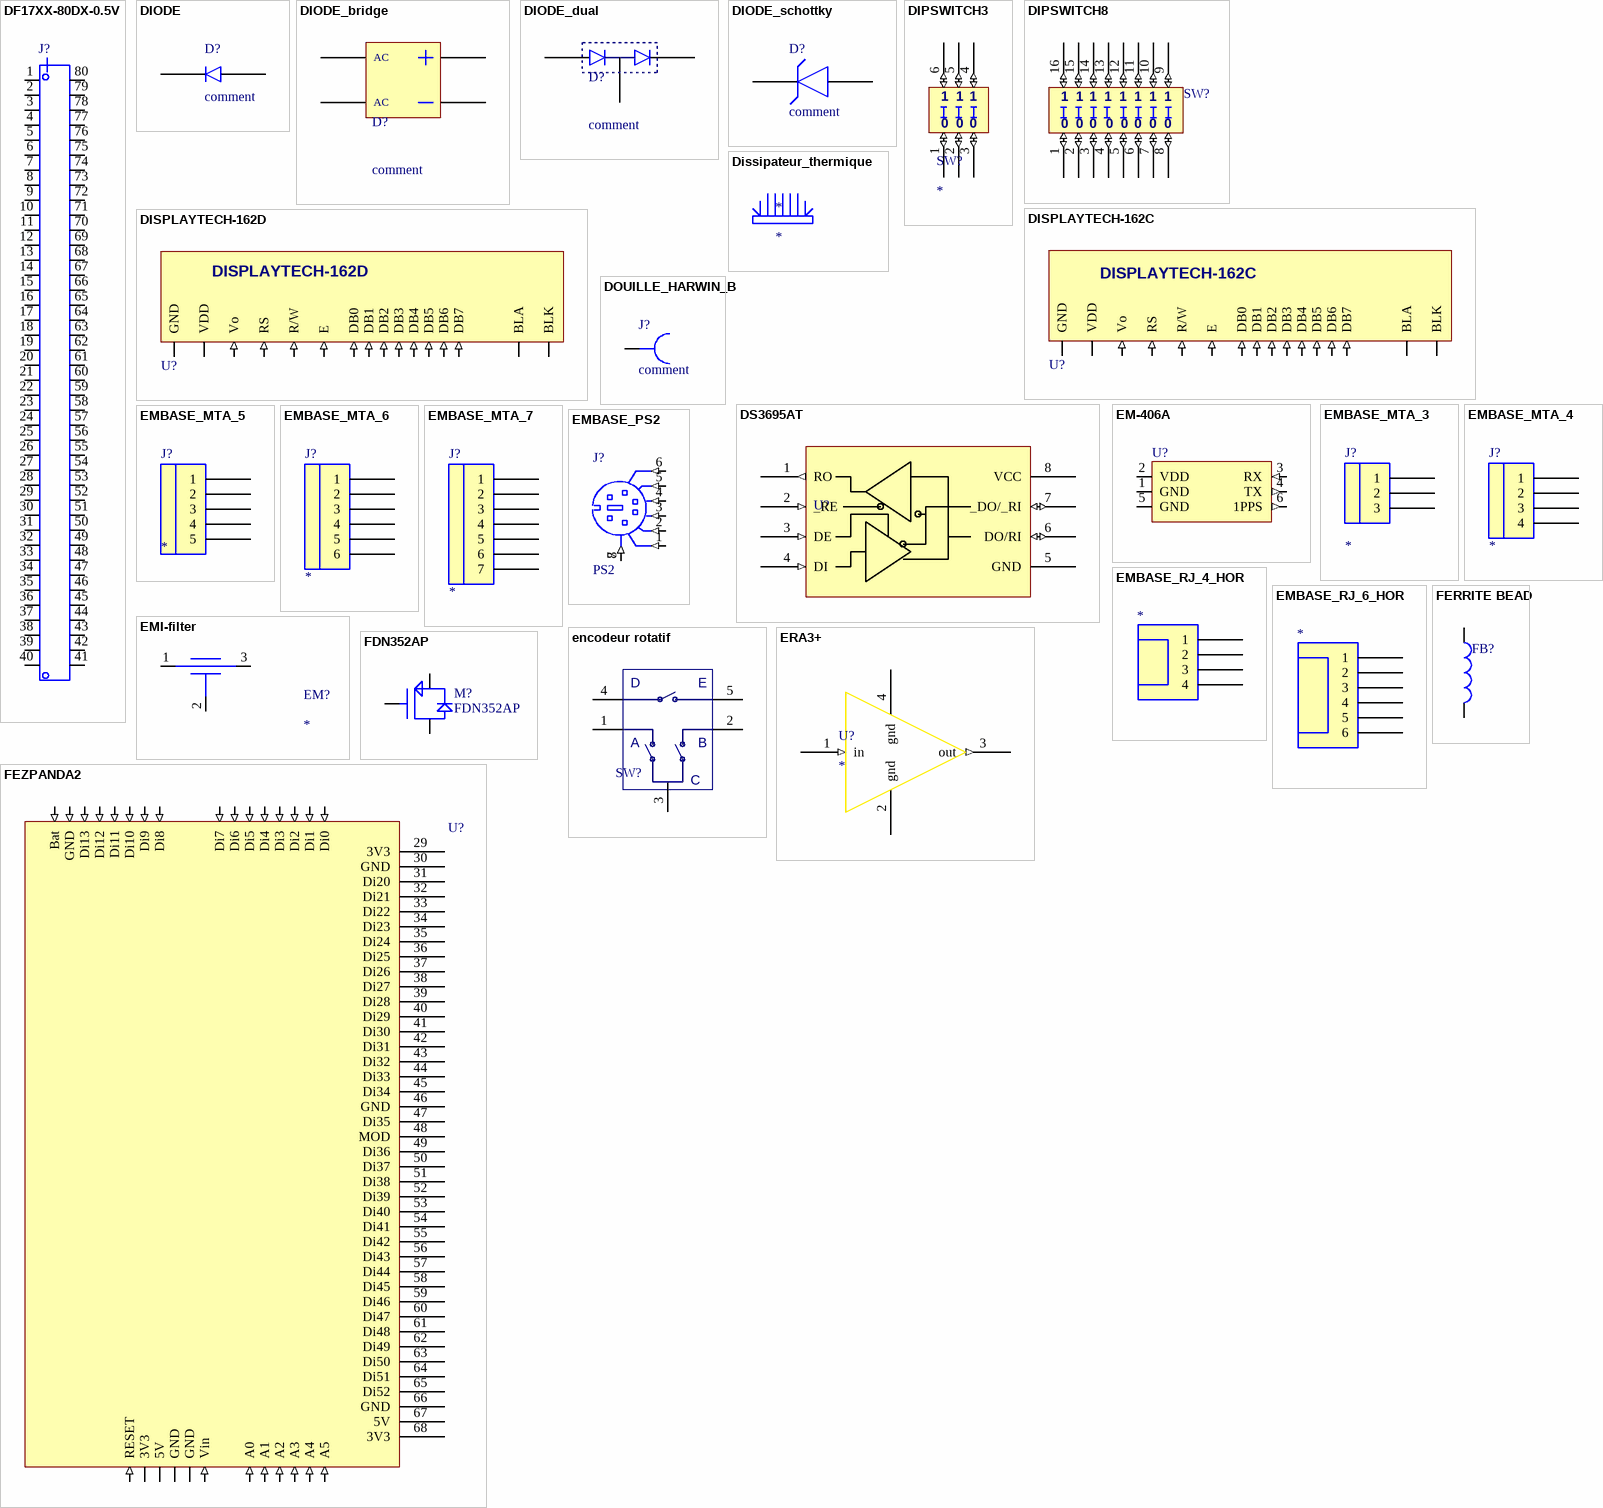
[diagram p3: symbols DF17XX-80DX-0.5V to FEZPANDA2]

## DF17XX-80DX-0.5V
designator J?
HIROSE FT17 Series
footprint D17XX-80DP-0.5V
footprint D17XX-80DS-0.5V
pins: 1, 2, 3, 4, 5, 6, 7, 8, 9, 10, 11, 12, 13, 14, 15, 16, 17, 18, 19, 20, 21, 22, 23, 24, 25, 26, 27, 28, 29, 30, 31, 32, 33, 34, 35, 36, 37, 38, 39, 40, 41, 42, 43, 44, 45, 46, 47, 48, 49, 50, 51, 52, 53, 54, 55, 56, 57, 58, 59, 60, 61, 62, 63, 64, 65, 66, 67, 68, 69, 70, 71, 72, 73, 74, 75, 76, 77, 78, 79, 80

## DIODE
designator D?, comment comment
diode usage général
footprint DIODE0.2
footprint DIODE0.4
footprint DIODE0.5
footprint DIODE0.6
footprint SMA
footprint SOD123F
pins: 1, 2

## DIODE_bridge
designator D?, comment comment
diode usage général
footprint GBU-4L
pins: 1, 2, 3, 4
text: AC

## DIODE_dual
designator D?, comment comment
diode usage général
footprint sot23
pins: 1, 2, 3

## DIODE_schottky
designator D?, comment comment
diode schottky standard
footprint DIODE0.2
footprint DIODE0.4
footprint DIODE0.5
footprint DIODE0.6
footprint SMA
footprint DIODE0.6small
footprint DO-214AA
pins: 1, 2

## DIPSWITCH3
designator SW?
pins: 1 (io), 2 (io), 3 (io), 4 (io), 5 (io), 6 (io)
text: 0

## DIPSWITCH8
designator SW?
footprint DIPSWITCH8
pins: 1 (io), 2 (io), 3 (io), 4 (io), 5 (io), 6 (io), 7 (io), 8 (io), 9 (io), 10 (io), 11 (io), 12 (io), 13 (io), 14 (io), 15 (io), 16 (io)
text: 0

## DISPLAYTECH-162C
designator U?  (value not drawn)
footprint DISPLAYTECH_162C
footprint DISPLAYTECH_162C_no_holes
pins: 1 GND (power), 2 VDD (power), 3 Vo (in), 4 RS (in), 5 R/W (in), 6 E (in), 7 DB0 (in), 8 DB1 (in), 9 DB2 (in), 10 DB3 (in), 11 DB4 (in), 12 DB5 (in), 13 DB6 (in), 14 DB7 (in), 15 BLA (power), 16 BLK (power)

## DISPLAYTECH-162D
designator U?  (value not drawn)
footprint DISPLAYTECH-162D
footprint DISPLAYTECH-162D-NO-HOLES
pins: 1 DB7 (in), 2 DB6 (in), 3 DB5 (in), 4 DB4 (in), 5 DB3 (in), 6 DB2 (in), 7 DB1 (in), 8 DB0 (in), 9 E (in), 10 R/W (in), 11 RS (in), 12 Vo (in), 13 GND (power), 14 VDD (power), 15 BLA (power), 16 BLK (power)

## Dissipateur_thermique
designator *
footprint DISS_TO220_V_12x35x25

## DOUILLE_HARWIN_B
designator J?, comment comment
footprint HARWIN_B
footprint harwin_h8501
pins: 1

## DS3695AT
designator U?  (value not drawn)
footprint SO8
pins: 1 RO (out), 2 _RE (in), 3 DE (in), 4 DI (in), 5 GND (power), 6 DO/RI (io), 7 _DO/_RI (io), 8 VCC (power)

## EM-406A
designator U?
GPS module
footprint EM-406A
pins: 1 GND (power), 2 VDD (power), 3 RX (in), 4 TX (out), 5 GND (power), 6 1PPS (out)

## EMBASE_MTA_3
designator J?
footprint EMBASE_MTA_3_CONTACTS
footprint EMBASE_MTA_3_CONTACTS_HOR
pins: 1, 2, 3

## EMBASE_MTA_4
designator J?
footprint EMBASE_MTA_4_CONTACTS
pins: 1, 2, 3, 4

## EMBASE_MTA_5
designator J?
footprint EMBASE_MTA_5_CONTACTS
pins: 1, 2, 3, 4, 5

## EMBASE_MTA_6
designator J?
footprint embase_MTA_6_contacts
pins: 1, 2, 3, 4, 5, 6

## EMBASE_MTA_7
designator J?
footprint EMBASE_MTA_7_CONTACTS
pins: 1, 2, 3, 4, 5, 6, 7

## EMBASE_PS2
designator J?, comment PS2
footprint PS2
pins: 1 (in), 2 (in), 3 (in), 4 (in), 5 (in), 6 (in), 7 (in), 8 (in)

## EMBASE_RJ_4_HOR
designator *
footprint EMBASE_RJ_4_CTCTS_HOR
footprint EMBASE_RJ_4_CTCTS_VER
pins: 1, 2, 3, 4

## EMBASE_RJ_6_HOR
designator *
footprint EMBASE_RJ_6_CTCTS_HOR
footprint EMBASE_RJ_6_CTCTS_VER
pins: 1, 2, 3, 4, 5, 6

## EMI-filter
designator EM?
footprint NFM18PS
pins: 1, 2, 3

## encodeur rotatif
designator SW?  (value not drawn)
RS: 623-4237
footprint EC12E2424407
pins: 1 A, 2 B, 3 C, 4 D, 5 E

## ERA3+
designator U?
DC-3GHz amplifier
footprint vv105
pins: 1 in (in), 2 gnd (power), 3 out (out), 4 gnd (power)

## FDN352AP
designator M?
footprint SOT23
pins: 1, 2, 3

## FERRITE BEAD
designator FB?
perle ferrite
footprint 1206
footprint 0805
footprint 0603
footprint AXIAL0.3
footprint AXIAL0.4
simulation model Model Name (Model Description)
footprint inductorFC
footprint 0402
pins: 1, 2

## FEZPANDA2
designator U?
footprint FEZPANDAII
pins: 1 RESET (in), 2 3V3 (power), 3 5V (power), 4 GND (power), 5 GND (power), 6 Vin (in), 7 A0 (in), 8 A1 (in), 9 A2 (in), 10 A3 (in), 11 A4 (in), 12 A5 (in), 13 Di0 (in), 14 Di1 (in), 15 Di2 (in), 16 Di3 (in), 17 Di4 (in), 18 Di5 (in), 19 Di6 (in), 20 Di7 (in), 21 Di8 (in), 22 Di9 (in), 23 Di10 (in), 24 Di11 (in), 25 Di12 (in), 26 Di13 (in), 27 GND (in), 28 Bat (in), 29 3V3, 30 GND, 31 Di20, 32 Di21, 33 Di22, 34 Di23, 35 Di24, 36 Di25, 37 Di26, 38 Di27, 39 Di28, 40 Di29, 41 Di30, 42 Di31, 43 Di32, 44 Di33, 45 Di34, 46 GND, 47 Di35, 48 MOD, 49 Di36, 50 Di37, 51 Di38, 52 Di39, 53 Di40, 54 Di41, 55 Di42, 56 Di43, 57 Di44, 58 Di45, 59 Di46, 60 Di47, 61 Di48, 62 Di49, 63 Di50, 64 Di51, 65 Di52, 66 GND, 67 5V, 68 3V3

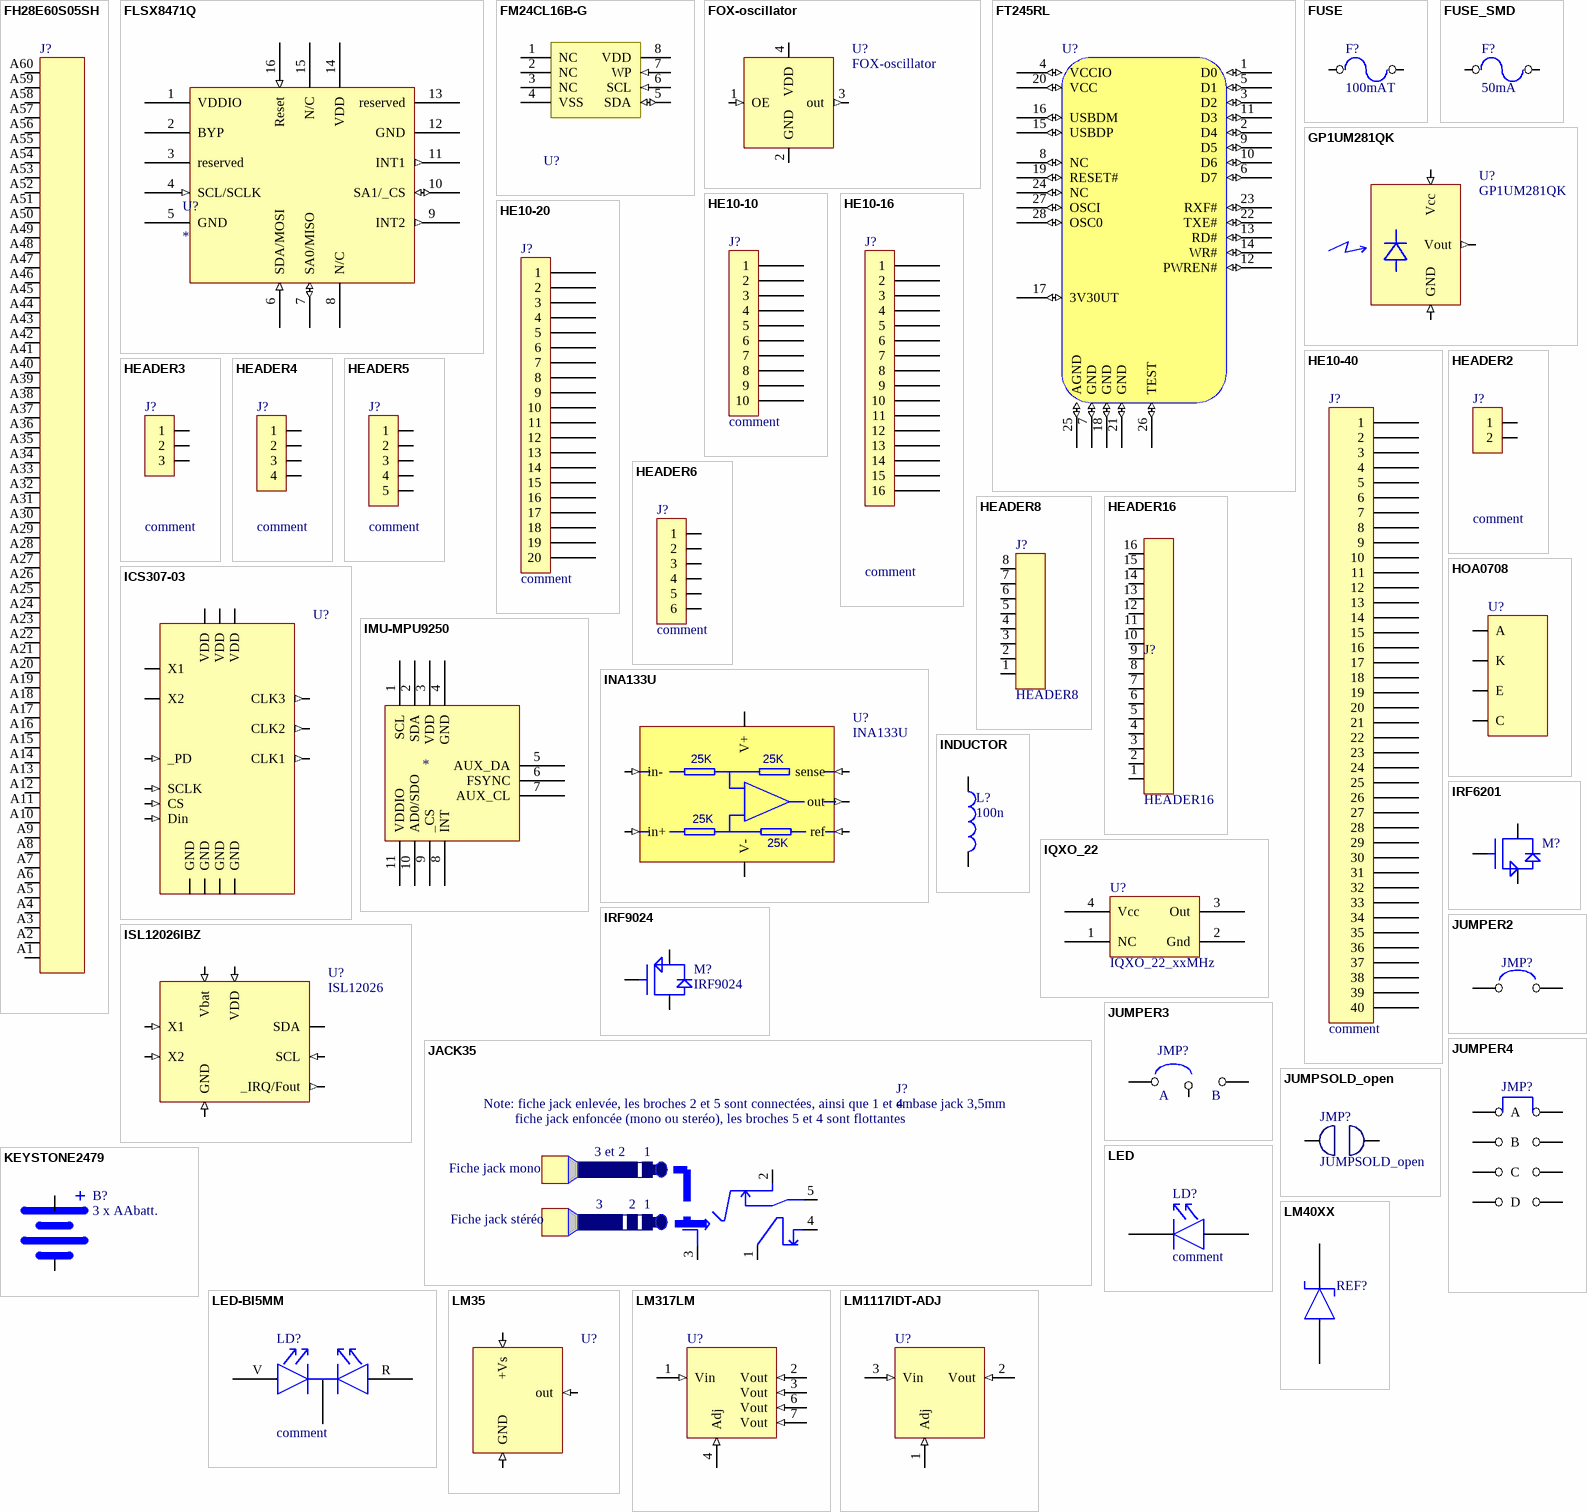
[diagram p4: symbols FH28E60S05SH to LM1117IDT-ADJ]

## FH28E60S05SH
designator J?
footprint FH28E60S05SH
pins: A1, A2, A3, A4, A5, A6, A7, A8, A9, A10, A11, A12, A13, A14, A15, A16, A17, A18, A19, A20, A21, A22, A23, A24, A25, A26, A27, A28, A29, A30, A31, A32, A33, A34, A35, A36, A37, A38, A39, A40, A41, A42, A43, A44, A45, A46, A47, A48, A49, A50, A51, A52, A53, A54, A55, A56, A57, A58, A59, A60

## FLSX8471Q
designator U?
footprint QFN16
pins: 1 VDDIO (power), 2 BYP, 3 reserved, 4 SCL/SCLK (in), 5 GND (power), 6 SDA/MOSI (in), 7 SA0/MISO (io), 8 N/C, 9 INT2 (out), 10 SA1/_CS (io), 11 INT1 (out), 12 GND (power), 13 reserved, 14 VDD (power), 15 N/C, 16 Reset (in)

## FM24CL16B-G
designator U?  (value not drawn)
footprint SO8
pins: 1 NC, 2 NC, 3 NC, 4 VSS (power), 5 SDA (io), 6 SCL (in), 7 WP (in), 8 VDD (power)

## FOX-oscillator
designator U?
oscillator
footprint FOX-HC53
footprint FOX-HC73
pins: 1 OE (in), 2 GND (power), 3 out (out), 4 VDD (power)

## FT245RL
designator U?
USB interface
footprint SSOP28
pins: 1 D0 (io), 2 D4 (io), 3 D2 (io), 4 VCCIO (io), 5 D1 (io), 6 D7 (io), 7 GND (io), 8 NC (io), 9 D5 (io), 10 D6 (io), 11 D3 (io), 12 PWREN# (io), 13 RD# (io), 14 WR# (io), 15 USBDP (io), 16 USBDM (io), 17 3V30UT (io), 18 GND (io), 19 RESET# (io), 20 VCC (io), 21 GND (io), 22 TXE# (io), 23 RXF# (io), 24 NC (io), 25 AGND (io), 26 TEST (io), 27 OSCI (io), 28 OSC0 (io)

## FUSE
designator F?, comment 100mAT
fusible 5x20 sur support CI
footprint 5X20CI_2
pins: 1, 2, 3, 4

## FUSE_SMD
designator F?, comment 50mA
Polyfuse
footprint 0603
pins: 1, 2

## GP1UM281QK
designator U?
footprint GP1UM281QK
pins: 1 Vout (out), 2 Vcc (in), 3 GND (in)

## HE10-10
designator J?, comment comment
10-pin connector
footprint HE10-10V
footprint HE10-10H (HE10 10broches horizontal)
footprint HARTING09185106913 (HE10 10broches horizontal)
pins: 1, 2, 3, 4, 5, 6, 7, 8, 9, 10

## HE10-16
designator J?, comment comment
20-pin connector
footprint HE10-16H
footprint HE10-16V
pins: 1, 2, 3, 4, 5, 6, 7, 8, 9, 10, 11, 12, 13, 14, 15, 16

## HE10-20
designator J?, comment comment
20-pin connector
footprint HE10-20H
footprint HE10-20lat
footprint HE10-20V-FEM-PCB
footprint HE10-20V
pins: 1, 2, 3, 4, 5, 6, 7, 8, 9, 10, 11, 12, 13, 14, 15, 16, 17, 18, 19, 20

## HE10-40
designator J?, comment comment
40-pin connector
footprint HE10-40V
footprint HE10-40V-fem-pcb-socket
footprint HE10-40H
footprint HE10-40V-lock
pins: 1, 2, 3, 4, 5, 6, 7, 8, 9, 10, 11, 12, 13, 14, 15, 16, 17, 18, 19, 20, 21, 22, 23, 24, 25, 26, 27, 28, 29, 30, 31, 32, 33, 34, 35, 36, 37, 38, 39, 40

## HEADER2
designator J?, comment comment
footprint JST-B02B-PASK
pins: 1, 2

## HEADER3
designator J?, comment comment
footprint EMBASE_MTA_3_CONTACTS
footprint HEADER3-100-1x3
footprint JST-B03B-PASK
pins: 1, 2, 3

## HEADER4
designator J?, comment comment
footprint EMBASE_MTA_4_CONTACTS
footprint HEADER4-100-1x4
footprint JST-B04B-PASK
footprint JST-S04B-PASK-2
footprint FPC-4-H-RS1622311
pins: 1, 2, 3, 4

## HEADER5
designator J?, comment comment
footprint HEADER5-100-V
footprint header5-200-v
footprint header5-100-hr
footprint header5-100-hl
footprint header5-200-hr
footprint header5-200-hl
footprint header5-130-hl
footprint HEADER5-100-1x5
footprint JST-B05B-PASK
footprint JST-S05B-PASK-2
pins: 1, 2, 3, 4, 5

## HEADER6
designator J?, comment comment
footprint TYCOMICROMATCH6
footprint arduino_isp
footprint HEADER6-100-HL
footprint HEADER6-100-V
footprint HEADER6-100-HR
footprint HEADER6-100-1x6
footprint HEADER6-100-2x3
pins: 1, 2, 3, 4, 5, 6

## HEADER8
designator J?
footprint ILWX8
footprint 2214S-8
footprint HEADER8-100-1x8
footprint HEADER8-100-2x4
pins: 1, 2, 3, 4, 5, 6, 7, 8

## HEADER16
designator J?
footprint HEADER16-100-V
footprint HEADER16-100-2x8
pins: 1, 2, 3, 4, 5, 6, 7, 8, 9, 10, 11, 12, 13, 14, 15, 16

## HOA0708
designator U?
footprint HOA0708
pins: 1 A, 2 K, 3 E, 4 C

## ICS307-03
designator U?
200Hz-270MHz PLL clock
footprint TSSOP16
pins: 1 X1, 2 VDD (power), 3 VDD (power), 4 VDD (power), 5 GND (power), 6 GND (power), 7 GND (power), 8 CLK1 (out), 9 SCLK (in), 10 CS (in), 11 Din (in), 12 CLK2 (out), 13 GND (power), 14 CLK3 (out), 15 _PD (in), 16 X2

## IMU-MPU9250
designator *  (value not drawn)
footprint IMU-MPU9250
pins: 1 SCL, 2 SDA, 3 VDD, 4 GND, 5 AUX_DA, 6 FSYNC, 7 AUX_CL, 8 INT, 9 _CS, 10 AD0/SDO, 11 VDDIO

## INA133U
designator U?
footprint SO8
pins: 1 ref (in), 2 in- (in), 3 in+ (in), 4 V- (power), 5 sense (in), 6 out (out), 7 V+ (power)
text: 25K

## INDUCTOR
designator L?  value 100n
inductance
footprint 1206
footprint 0805
footprint 0603
footprint AXIAL0.3
footprint AXIAL0.4
simulation model Model Name (Model Description)
footprint inductorFC
footprint 0402
footprint WE-PD-7447713xxx
footprint WE-74438336100
pins: 1, 2

## IQXO_22
designator U?, comment IQXO_22_xxMHz
OSC QUARTZ DIP8
footprint IQXO_22
pins: 1 NC, 2 Gnd, 3 Out, 4 Vcc

## IRF6201
designator M?
footprint SO8
pins: 1, 2, 3, 4, 5, 6, 7, 8

## IRF9024
designator M?
footprint TO252AA
pins: 1, 2, 3

## ISL12026IBZ
designator U?, comment ISL12026
footprint SO8
pins: 1 X1 (in), 2 X2 (in), 3 _IRQ/Fout (out), 4 GND (in), 5 SDA (io), 6 SCL (in), 7 Vbat (in), 8 VDD (in)

## JACK35
designator J?, comment embase jack 3,5mm
footprint JACK35 (embase jack 3,5mm à souder)
pins: 1, 2, 3, 4, 5
text: Note: fiche jack enlevée, les broches 2 et 5 sont connectées, ainsi que 1 et 4; fiche jack enfoncée (mono ou steréo), les broches 5 et 4 sont flottantes; 3 et 2; Fiche jack mono; Fiche jack stéréo

## JUMPER2
designator JMP?
cavalier 1 position
footprint JMP2-100
footprint JMP2-2MM
pins: 1, 2

## JUMPER3
designator JMP?
cavalier 2 positions
footprint JMP3-100
footprint JMP3-2MM
pins: 1, 2, 3
text: A; B

## JUMPER4
designator JMP?
cavalier 1 position
footprint JMP4-100
pins: 1 A, 2 com, 3 B, 4 com, 5 C, 6 com, 7 D, 8 com

## JUMPSOLD_open
designator JMP?
jumper par soudure circuit ouvert
footprint JMP2-sold
pins: 1, 2

## KEYSTONE2479
designator B?, comment 3 x AAbatt.
footprint KEYSTONE2479
pins: 1 (io), 2 (io)

## LED
designator LD?, comment comment
LED 5mm/3mm/CMS
footprint LED5 (5mm LED)
footprint LED3 (3mm LED)
footprint LED1206
footprint LED0805
footprint 3528
footprint KINGBRIGHT-L174 (3mm LED)
footprint KINGBRIGHT-L1154 (3mm LED)
pins: A 8, K 10

## LED-BI5MM
designator LD?, comment comment
LED bicolore R/V
footprint LEDBICOLORE5 (5mm bicolore)
pins: K 10, R 8, V 9

## LM35
designator U?
footprint Z03A
pins: 1 +Vs (in), 2 out (in), 3 GND (in)

## LM40XX
designator REF?
footprint SOT23
pins: 1, 2

## LM317LM
designator U?
footprint SO8
pins: 1 Vin (in), 2 Vout (in), 3 Vout (in), 4 Adj (in), 6 Vout (in), 7 Vout (in)

## LM1117IDT-ADJ
designator U?
footprint TO252LM1711
pins: 1 Adj (in), 2 Vout (in), 3 Vin (in)

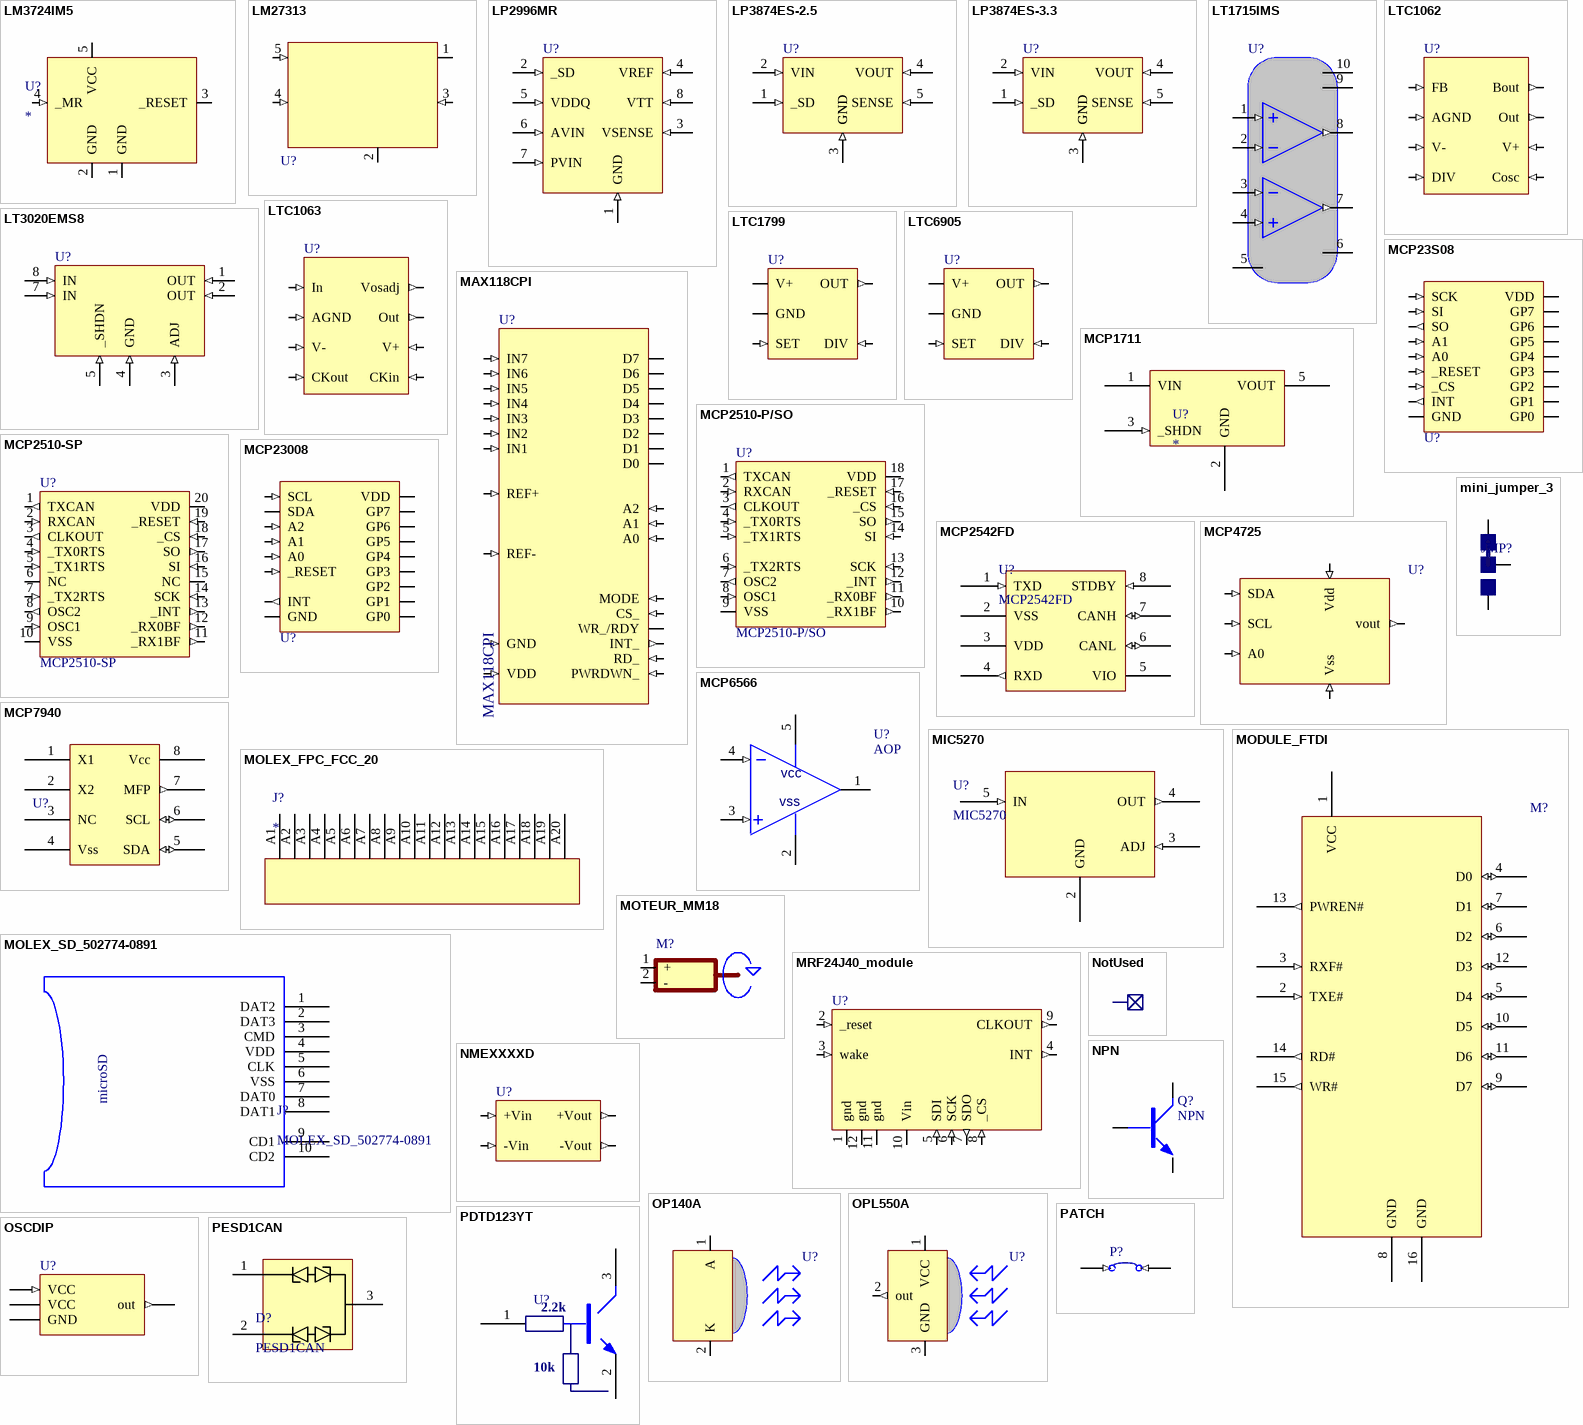
[diagram p5: symbols LM3724IM5 to PESD1CAN]

## LM3724IM5
designator U?
footprint SOT23 - 5
pins: 1 GND (power), 2 GND (power), 3 _RESET (oc), 4 _MR (in), 5 VCC (power)

## LM27313
designator U?  (value not drawn)
footprint SOT23 - 5
pins: 1 SW, 2 GND (power), 3 FB (in), 4 _SHDN (in), 5 Vin (in)

## LP2996MR
designator U?
footprint SO8
pins: 1 GND (in), 2 _SD (in), 3 VSENSE (in), 4 VREF (in), 5 VDDQ (in), 6 AVIN (in), 7 PVIN (in), 8 VTT (in)

## LP3874ES-2.5
designator U?
footprint TO263-5
pins: 1 _SD (in), 2 VIN (in), 3 GND (in), 4 VOUT (in), 5 SENSE (in), 6 GND (in)

## LP3874ES-3.3
designator U?
footprint TO263-5
pins: 1 _SD (in), 2 VIN (in), 3 GND (in), 4 VOUT (in), 5 SENSE (in), 6 GND (in)

## LT1715IMS
designator U?
footprint MSOP10 (Footprint not found)
pins: 1 (in), 2 (in), 3 (in), 4 (in), 5 VEE (power), 6 GND (power), 7 (out), 8 (out), 9 +Vs (power), 10 VCC (power)

## LT3020EMS8
designator U?
footprint MSOP8
pins: 1 OUT (in), 2 OUT (in), 3 ADJ (in), 4 GND (in), 5 _SHDN (in), 7 IN (in), 8 IN (in)

## LTC1062
designator U?
footprint DIP8
pins: 1 FB (in), 2 AGND (in), 3 V- (in), 4 DIV (in), 5 Cosc (in), 6 V+ (in), 7 Out (out), 8 Bout (out)

## LTC1063
designator U?
footprint DIP8
pins: 1 In (in), 2 AGND (in), 3 V- (in), 4 CKout (in), 5 CKin (in), 6 V+ (in), 7 Out (out), 8 Vosadj (out)

## LTC1799
designator U?
footprint TSOT23 - 5
pins: 1 V+, 2 GND, 3 SET (in), 4 DIV (in), 5 OUT (out)

## LTC6905
designator U?
footprint TSOT23 - 5
pins: 1 V+, 2 GND, 3 SET (in), 4 DIV (in), 5 OUT (out)

## MAX118CPI
designator U?
footprint DIP28_600
pins: 1 IN6 (in), 2 IN5 (in), 3 IN4 (in), 4 IN3 (in), 5 IN2 (in), 6 IN1 (in), 7 MODE (in), 8 D0 (io), 9 D1 (io), 10 D2 (io), 11 D3 (io), 12 RD_ (in), 13 INT_ (out), 14 GND (in), 15 REF- (in), 16 REF+ (in), 17 WR_/RDY (io), 18 CS_ (in), 19 D4 (io), 20 D5 (io), 21 D6 (io), 22 D7 (io), 23 A2 (in), 24 A1 (in), 25 A0 (in), 26 PWRDWN_ (in), 27 VDD (in), 28 IN7 (in)

## MCP23S08
designator U?
footprint DIP18
pins: 1 SCK (in), 2 SI (in), 3 SO (out), 4 A1 (in), 5 A0 (in), 6 _RESET (in), 7 _CS (in), 8 INT (out), 9 GND (power), 10 GP0 (io), 11 GP1 (io), 12 GP2 (io), 13 GP3 (io), 14 GP4 (io), 15 GP5 (io), 16 GP6 (io), 17 GP7 (io), 18 VDD (power)

## MCP1711
designator U?
footprint SOT23 - 5
pins: 1 VIN (power), 2 GND (power), 3 _SHDN (in), 5 VOUT (power)

## MCP2510-P/SO
designator U?
CAN controler
footprint DIP18
pins: 1 TXCAN (out), 2 RXCAN (in), 3 CLKOUT (out), 4 _TX0RTS (in), 5 _TX1RTS (in), 6 _TX2RTS (in), 7 OSC2 (out), 8 OSC1 (in), 9 VSS (power), 10 _RX1BF (out), 11 _RX0BF (out), 12 _INT (out), 13 SCK (in), 14 SI (in), 15 SO (out), 16 _CS (in), 17 _RESET (in), 18 VDD (power)

## MCP2510-SP
designator U?
CAN controler
footprint TSSOP20
pins: 1 TXCAN (out), 2 RXCAN (in), 3 CLKOUT (out), 4 _TX0RTS (in), 5 _TX1RTS (in), 6 NC, 7 _TX2RTS (in), 8 OSC2 (out), 9 OSC1 (in), 10 VSS (power), 11 _RX1BF (out), 12 _RX0BF (out), 13 _INT (out), 14 SCK (in), 15 NC, 16 SI (in), 17 SO (out), 18 _CS (in), 19 _RESET (in), 20 VDD (power)

## MCP2542FD
designator U?
footprint SOIC8_150mil
pins: 1 TXD (in), 2 VSS (power), 3 VDD (power), 4 RXD (out), 5 VIO (power), 6 CANL (io), 7 CANH (io), 8 STDBY (in)

## MCP4725
designator U?
footprint SOT23-6
pins: 1 vout (out), 2 Vss (in), 3 Vdd (in), 4 SDA (in), 5 SCL (in), 6 A0 (in)

## MCP6566
designator U?, comment AOP
comparateur open drain
footprint SC70
pins: 1 OUT (oc), 2 Vss (power), 3 IN+ (in), 4 IN- (in), 5 Vcc (power)
text: vcc; vss

## MCP7940
designator U?  (value not drawn)
footprint SO8
pins: 1 X1, 2 X2, 3 NC, 4 Vss (power), 5 SDA (io), 6 SCL (io), 7 MFP (out), 8 Vcc (power)

## MCP23008
designator U?
footprint DIP18
pins: 1 SCL (in), 2 SDA (io), 3 A2 (in), 4 A1 (in), 5 A0 (in), 6 _RESET (in), 8 INT (out), 9 GND (power), 10 GP0 (io), 11 GP1 (io), 12 GP2 (io), 13 GP3 (io), 14 GP4 (io), 15 GP5 (io), 16 GP6 (io), 17 GP7 (io), 18 VDD (power)

## MIC5270
designator U?
footprint M5
pins: 2 GND (power), 3 ADJ (in), 4 OUT (out), 5 IN (in)

## mini_jumper_3
designator JMP?  (value not drawn)
footprint mini_jumper_3
pins: 1, 2, 3

## MODULE_FTDI
designator M?
footprint MODULE_FTDI
pins: 1 VCC, 2 TXE# (in), 3 RXF# (in), 4 D0 (io), 5 D4 (io), 6 D2 (io), 7 D1 (io), 8 GND, 9 D7 (io), 10 D5 (io), 11 D6 (io), 12 D3 (io), 13 PWREN# (out), 14 RD# (out), 15 WR# (out), 16 GND

## MOLEX_FPC_FCC_20
designator J?
footprint MOLEX_FCC_FPC_20
pins: A1, A2, A3, A4, A5, A6, A7, A8, A9, A10, A11, A12, A13, A14, A15, A16, A17, A18, A19, A20

## MOLEX_SD_502774-0891
designator J?
footprint MOLEX_502774-0891
pins: 1 DAT2, 2 DAT3, 3 CMD, 4 VDD, 5 CLK, 6 VSS, 7 DAT0, 8 DAT1, 9 CD1, 10 CD2
text: microSD

## MOTEUR_MM18
designator M?
footprint MM108
pins: 1 +, 2 -

## MRF24J40_module
designator U?
footprint MRF24J40_module
pins: 1 gnd (power), 2 _reset (in), 3 wake (in), 4 INT (out), 5 SDI (in), 6 SCK (in), 7 SDO (out), 8 _CS (in), 9 CLKOUT (out), 10 Vin (power), 11 gnd (power), 12 gnd (power)

## NMEXXXXD
designator U?
isolated DCDC converter single output
footprint NMExxxxD
pins: 1 -Vin (in), 4 +Vin (in), 5 +Vout (out), 7 -Vout (out)

## NotUsed
designator ?

## NPN
designator Q?
NPN usage général
footprint TO92ACBE
footprint TO92AEBC
footprint TO92BEBC
footprint TO5
footprint TO92BCBE
pins: B, C, E

## OP140A
designator U?
footprint OP104A
pins: 1 A (power), 2 K (power)

## OPL550A
designator U?
footprint OPL550A
pins: 1 VCC (power), 2 out (out), 3 GND (power)

## OSCDIP
designator U?
TTL quartz oscillator
footprint OSCDIP8
footprint OSCDIP14
pins: 1 VCC (in) hidden to VCC, 2 VCC (power) hidden to VCC, 3 GND (power) hidden to GND, 4 out (out)

## PATCH
designator P?
footprint patch
pins: 1 (in), 2 (in)

## PDTD123YT
designator U?
footprint PDTD123YT
pins: 1 B, 2 E (oe), 3 C (oc)
text: 2.2k; 10k

## PESD1CAN
designator D?
RS: 508-860
footprint SOT95P230X110-3N
pins: 1, 2, 3

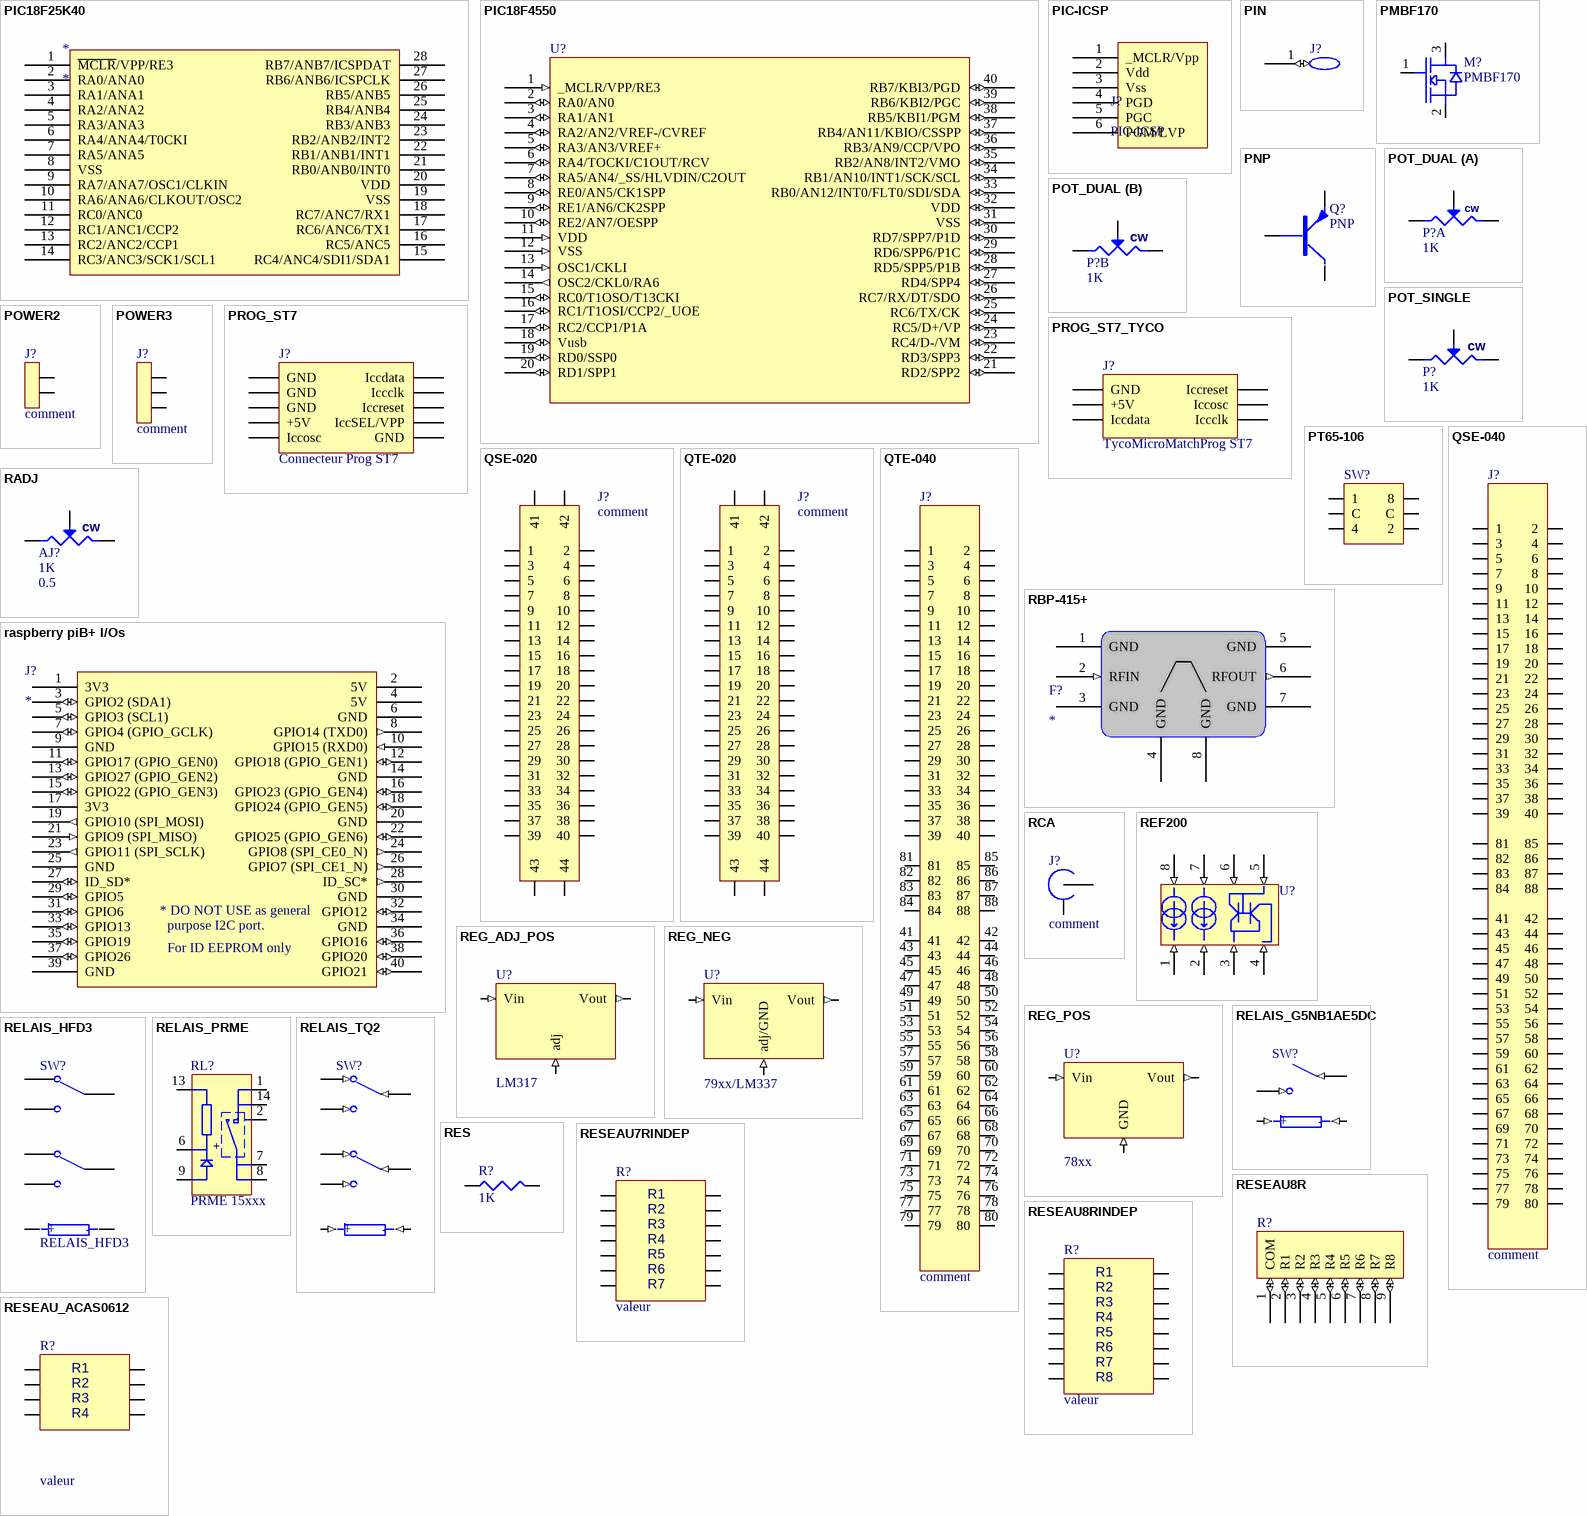
[diagram p6: symbols PIC18F25K40 to RESEAU_ACAS0612]

## PIC18F25K40
designator *
footprint DIP28_300
pins: 1 ~{MCLR}/VPP/RE3, 2 RA0/ANA0, 3 RA1/ANA1, 4 RA2/ANA2, 5 RA3/ANA3, 6 RA4/ANA4/T0CKI, 7 RA5/ANA5, 8 VSS, 9 RA7/ANA7/OSC1/CLKIN, 10 RA6/ANA6/CLKOUT/OSC2, 11 RC0/ANC0, 12 RC1/ANC1/CCP2, 13 RC2/ANC2/CCP1, 14 RC3/ANC3/SCK1/SCL1, 15 RC4/ANC4/SDI1/SDA1, 16 RC5/ANC5, 17 RC6/ANC6/TX1, 18 RC7/ANC7/RX1, 19 VSS, 20 VDD, 21 RB0/ANB0/INT0, 22 RB1/ANB1/INT1, 23 RB2/ANB2/INT2, 24 RB3/ANB3, 25 RB4/ANB4, 26 RB5/ANB5, 27 RB6/ANB6/ICSPCLK, 28 RB7/ANB7/ICSPDAT

## PIC18F4550
designator U?
footprint DIP40
pins: 1 _MCLR/VPP/RE3 (in), 2 RA0/AN0 (io), 3 RA1/AN1 (io), 4 RA2/AN2/VREF-/CVREF (io), 5 RA3/AN3/VREF+ (io), 6 RA4/TOCKI/C1OUT/RCV (io), 7 RA5/AN4/_SS/HLVDIN/C2OUT (io), 8 RE0/AN5/CK1SPP (io), 9 RE1/AN6/CK2SPP (io), 10 RE2/AN7/OESPP (io), 11 VDD (in), 12 VSS (in), 13 OSC1/CKLI (in), 14 OSC2/CKL0/RA6 (out), 15 RC0/T1OSO/T13CKI (io), 16 RC1/T1OSI/CCP2/_UOE (io), 17 RC2/CCP1/P1A (io), 18 Vusb (io), 19 RD0/SSP0 (io), 20 RD1/SPP1 (io), 21 RD2/SPP2 (io), 22 RD3/SPP3 (io), 23 RC4/D-/VM (io), 24 RC5/D+/VP (io), 25 RC6/TX/CK (io), 26 RC7/RX/DT/SDO (io), 27 RD4/SPP4 (io), 28 RD5/SPP5/P1B (io), 29 RD6/SPP6/P1C (io), 30 RD7/SPP7/P1D (io), 31 VSS (io), 32 VDD (io), 33 RB0/AN12/INT0/FLT0/SDI/SDA (io), 34 RB1/AN10/INT1/SCK/SCL (io), 35 RB2/AN8/INT2/VMO (io), 36 RB3/AN9/CCP/VPO (io), 37 RB4/AN11/KBIO/CSSPP (io), 38 RB5/KBI1/PGM (io), 39 RB6/KBI2/PGC (io), 40 RB7/KBI3/PGD (io)

## PIC-ICSP
designator J?
footprint PIC-ICSP
pins: 1 _MCLR/Vpp, 2 Vdd, 3 Vss, 4 PGD, 5 PGC, 6 PGM/LVP

## PIN
designator J?
footprint TESTPOINT
footprint TESTPOINT2
footprint TESTPOINT3
pins: 1 (io)

## PMBF170
designator M?
footprint SOT23
pins: 1, 2, 3

## PNP
designator Q?
PNP usage général
footprint TO92ACBE
footprint TO92AEBC
footprint TO92BEBC
footprint TO5
footprint TO92BCBE
pins: B, C, E

## POT_DUAL
designator P?  value 1K
potentiomètre simple; Set Position: 0.5
simulation model Model Name (Model Description)
part A pins: 1, 2, 3
part B pins: 4, 5, 6
part A text: cw
part B text: cw

## POT_SINGLE
designator P?  value 1K
potentiomètre simple; Set Position: 0.5
footprint POT10TOURS
simulation model Model Name (Model Description)
footprint VISHAY_P10XX
footprint BOURNS3310Y
footprint RK09K1130AV7
pins: 1, 2, 3
text: cw

## POWER2
designator J?, comment comment
connecteur alim 2 pôles
footprint POWER2
footprint HE14_2
footprint AMP_2
footprint JST-EH-2
pins: 1, 2

## POWER3
designator J?, comment comment
connecteur alim 3points
footprint POWER3
footprint HE14_3
footprint AMP_3
footprint AMP_3_H
pins: 1, 2, 3

## PROG_ST7
designator J?, comment Connecteur Prog ST7
footprint HE10-10H (HE10 10broches horizontal)
footprint HE10-10V
pins: 1 GND, 2 Iccdata, 3 GND, 4 Iccclk, 5 GND, 6 Iccreset, 7 +5V, 8 IccSEL/VPP, 9 Iccosc, 10 GND

## PROG_ST7_TYCO
designator J?, comment TycoMicroMatchProg ST7
footprint TYCOMICROMATCH6
pins: 1 Iccclk, 2 Iccdata, 3 Iccosc, 4 GND, 5 +5V, 6 Iccreset

## PT65-106
designator SW?
footprint PT65-106
pins: 1, 2 C, 3 4, 4 2, 5 C, 6 8

## QSE-020
designator J?, comment comment
footprint QSE020-01-X-D-A
pins: 1, 2, 3, 4, 5, 6, 7, 8, 9, 10, 11, 12, 13, 14, 15, 16, 17, 18, 19, 20, 21, 22, 23, 24, 25, 26, 27, 28, 29, 30, 31, 32, 33, 34, 35, 36, 37, 38, 39, 40, 41, 42, 43, 44

## QSE-040
designator J?, comment comment
footprint QSE-040-X-D-A
pins: 1, 2, 3, 4, 5, 6, 7, 8, 9, 10, 11, 12, 13, 14, 15, 16, 17, 18, 19, 20, 21, 22, 23, 24, 25, 26, 27, 28, 29, 30, 31, 32, 33, 34, 35, 36, 37, 38, 39, 40, 41, 42, 43, 44, 45, 46, 47, 48, 49, 50, 51, 52, 53, 54, 55, 56, 57, 58, 59, 60, 61, 62, 63, 64, 65, 66, 67, 68, 69, 70, 71, 72, 73, 74, 75, 76, 77, 78, 79, 80, 81, 82, 83, 84, 85, 86, 87, 88

## QTE-020
designator J?, comment comment
footprint QTE020-01-X-D-A
pins: 1, 2, 3, 4, 5, 6, 7, 8, 9, 10, 11, 12, 13, 14, 15, 16, 17, 18, 19, 20, 21, 22, 23, 24, 25, 26, 27, 28, 29, 30, 31, 32, 33, 34, 35, 36, 37, 38, 39, 40, 41, 42, 43, 44

## QTE-040
designator J?, comment comment
footprint QTE-040-X-D-A
pins: 1, 2, 3, 4, 5, 6, 7, 8, 9, 10, 11, 12, 13, 14, 15, 16, 17, 18, 19, 20, 21, 22, 23, 24, 25, 26, 27, 28, 29, 30, 31, 32, 33, 34, 35, 36, 37, 38, 39, 40, 41, 42, 43, 44, 45, 46, 47, 48, 49, 50, 51, 52, 53, 54, 55, 56, 57, 58, 59, 60, 61, 62, 63, 64, 65, 66, 67, 68, 69, 70, 71, 72, 73, 74, 75, 76, 77, 78, 79, 80, 81, 82, 83, 84, 85, 86, 87, 88

## RADJ
designator AJ?  value 1K  Set Position: 0.5
résistance ajustable
footprint BI67X
footprint CMS3314G
footprint POT10TOURS
footprint BI67P
simulation model Model Name (Model Description)
footprint BI67W
pins: 1, 2, 3
text: cw

## raspberry piB+ I/Os
designator J?
footprint HE10-40V-fem-pcb-socket
pins: 1 3V3 (power), 2 5V (power), 3 GPIO2 (SDA1) (io), 4 5V (power), 5 GPIO3 (SCL1) (io), 6 GND (power), 7 GPIO4 (GPIO_GCLK) (io), 8 GPIO14 (TXD0) (out), 9 GND (power), 10 GPIO15 (RXD0) (in), 11 GPIO17 (GPIO_GEN0) (io), 12 GPIO18 (GPIO_GEN1) (io), 13 GPIO27 (GPIO_GEN2) (io), 14 GND (power), 15 GPIO22 (GPIO_GEN3) (io), 16 GPIO23 (GPIO_GEN4) (io), 17 3V3 (power), 18 GPIO24 (GPIO_GEN5) (io), 19 GPIO10 (SPI_MOSI) (out), 20 GND (power), 21 GPIO9 (SPI_MISO) (in), 22 GPIO25 (GPIO_GEN6) (io), 23 GPIO11 (SPI_SCLK) (out), 24 GPIO8 (SPI_CE0_N) (out), 25 GND (power), 26 GPIO7 (SPI_CE1_N) (out), 27 ID_SD* (io), 28 ID_SC* (out), 29 GPIO5 (io), 30 GND (power), 31 GPIO6 (io), 32 GPIO12 (io), 33 GPIO13 (io), 34 GND (power), 35 GPIO19 (io), 36 GPIO16 (io), 37 GPIO26 (io), 38 GPIO20 (io), 39 GND (power), 40 GPIO21 (io)
text: * DO NOT USE as general; purpose I2C port.; For ID EEPROM only

## RBP-415+
designator F?
404-426MHz band-pass filter
footprint minicircuits-GP731
pins: 1 GND (power), 2 RFIN (in), 3 GND (power), 4 GND (power), 5 GND (power), 6 RFOUT (out), 7 GND (power), 8 GND (power)

## RCA
designator J?, comment comment
fiche RCA
footprint SMAH
footprint SMAV
footprint BNCH
footprint BNCV
footprint SMAHPCB
pins: 1, 2, 3, 4, 5

## REF200
designator U?
footprint SO8
pins: 1 DLLenable(PU) (in), 2 DLLenable(PU) (in), 3 DLLenable(PU) (in), 4 DLLenable(PU) (in), 5 DLLenable(PU) (in), 6 DLLenable(PU) (in), 7 DLLenable(PU) (in), 8 DLLenable(PU) (in)

## REG_ADJ_POS
designator U?, comment LM317
régulateur positif ajustable
footprint TO220H
footprint TO220V
pins: 1 adj (in), 2 Vout (out), 3 Vin (in)

## REG_NEG
designator U?, comment 79xx/LM337
régulateur négatif fixe ou ajustable
footprint TO220H
footprint TO220V
pins: 1 adj/GND (in), 2 Vin (in), 3 Vout (out)

## REG_POS
designator U?, comment 78xx
régulateur positif fixe
footprint TO220H
footprint TO220V
footprint TO252
footprint TO92_reg
pins: 1 Vin (in), 2 GND (in), 3 Vout (out)

## RELAIS_G5NB1AE5DC
designator SW?
relais 3A SPST NO
footprint G5NB1AE
pins: 1 - (in), 2 R (in), 3 (in), 4 + (in)

## RELAIS_HFD3
designator SW?
relais RF DPDT
footprint HFD3
pins: 1 +, 3 R, 4, 5 T, 8 T, 9, 10 R, 12 -

## RELAIS_PRME
designator RL?, comment PRME 15xxx
footprint RELAIS_PRME
pins: 1, 2, 6, 7, 8, 9, 13, 14
text: +

## RELAIS_TQ2
designator SW?
relais RF DPDT
footprint TQ2
pins: 1 - (in), 2 R (in), 3 (in), 4 T (in), 7 T (in), 8 (in), 9 R (in), 10 + (in)

## RES
designator R?  value 1K
resistance
footprint 1206
footprint 0805
footprint 0603
footprint AXIAL0.3
simulation model RESISTOR (Model Description)
footprint AXIAL0.4
footprint AXIAL0.5
footprint AXIAL0.6
footprint AXIAL0.7
footprint AXIAL0.8
footprint AXIAL0.9
footprint AXIAL1.0
footprint 0402
footprint 0402_shrink
footprint 0603_shrink
footprint 0201
footprint axial0.4-H316101
pins: 1, 2

## RESEAU7RINDEP
designator R?, comment valeur
footprint DIP14
footprint BOURNS_4814P
pins: 1, 2, 3, 4, 5, 6, 7, 8, 9, 10, 11, 12, 13, 14
text: R1; R2; R3; R4; R5; R6; R7

## RESEAU8R
designator R?
footprint SIP9
pins: 1 COM (io), 2 R1 (io), 3 R2 (io), 4 R3 (io), 5 R4 (io), 6 R5 (io), 7 R6 (io), 8 R7 (io), 9 R8 (io)

## RESEAU8RINDEP
designator R?, comment valeur
footprint DIP16
footprint BOURNS_4816P
pins: 1, 2, 3, 4, 5, 6, 7, 8, 9, 10, 11, 12, 13, 14, 15, 16
text: R1; R2; R3; R4; R5; R6; R7; R8

## RESEAU_ACAS0612
designator R?, comment valeur
footprint ACAS0612
pins: 1, 2, 3, 4, 5, 6, 7, 8
text: R1; R2; R3; R4

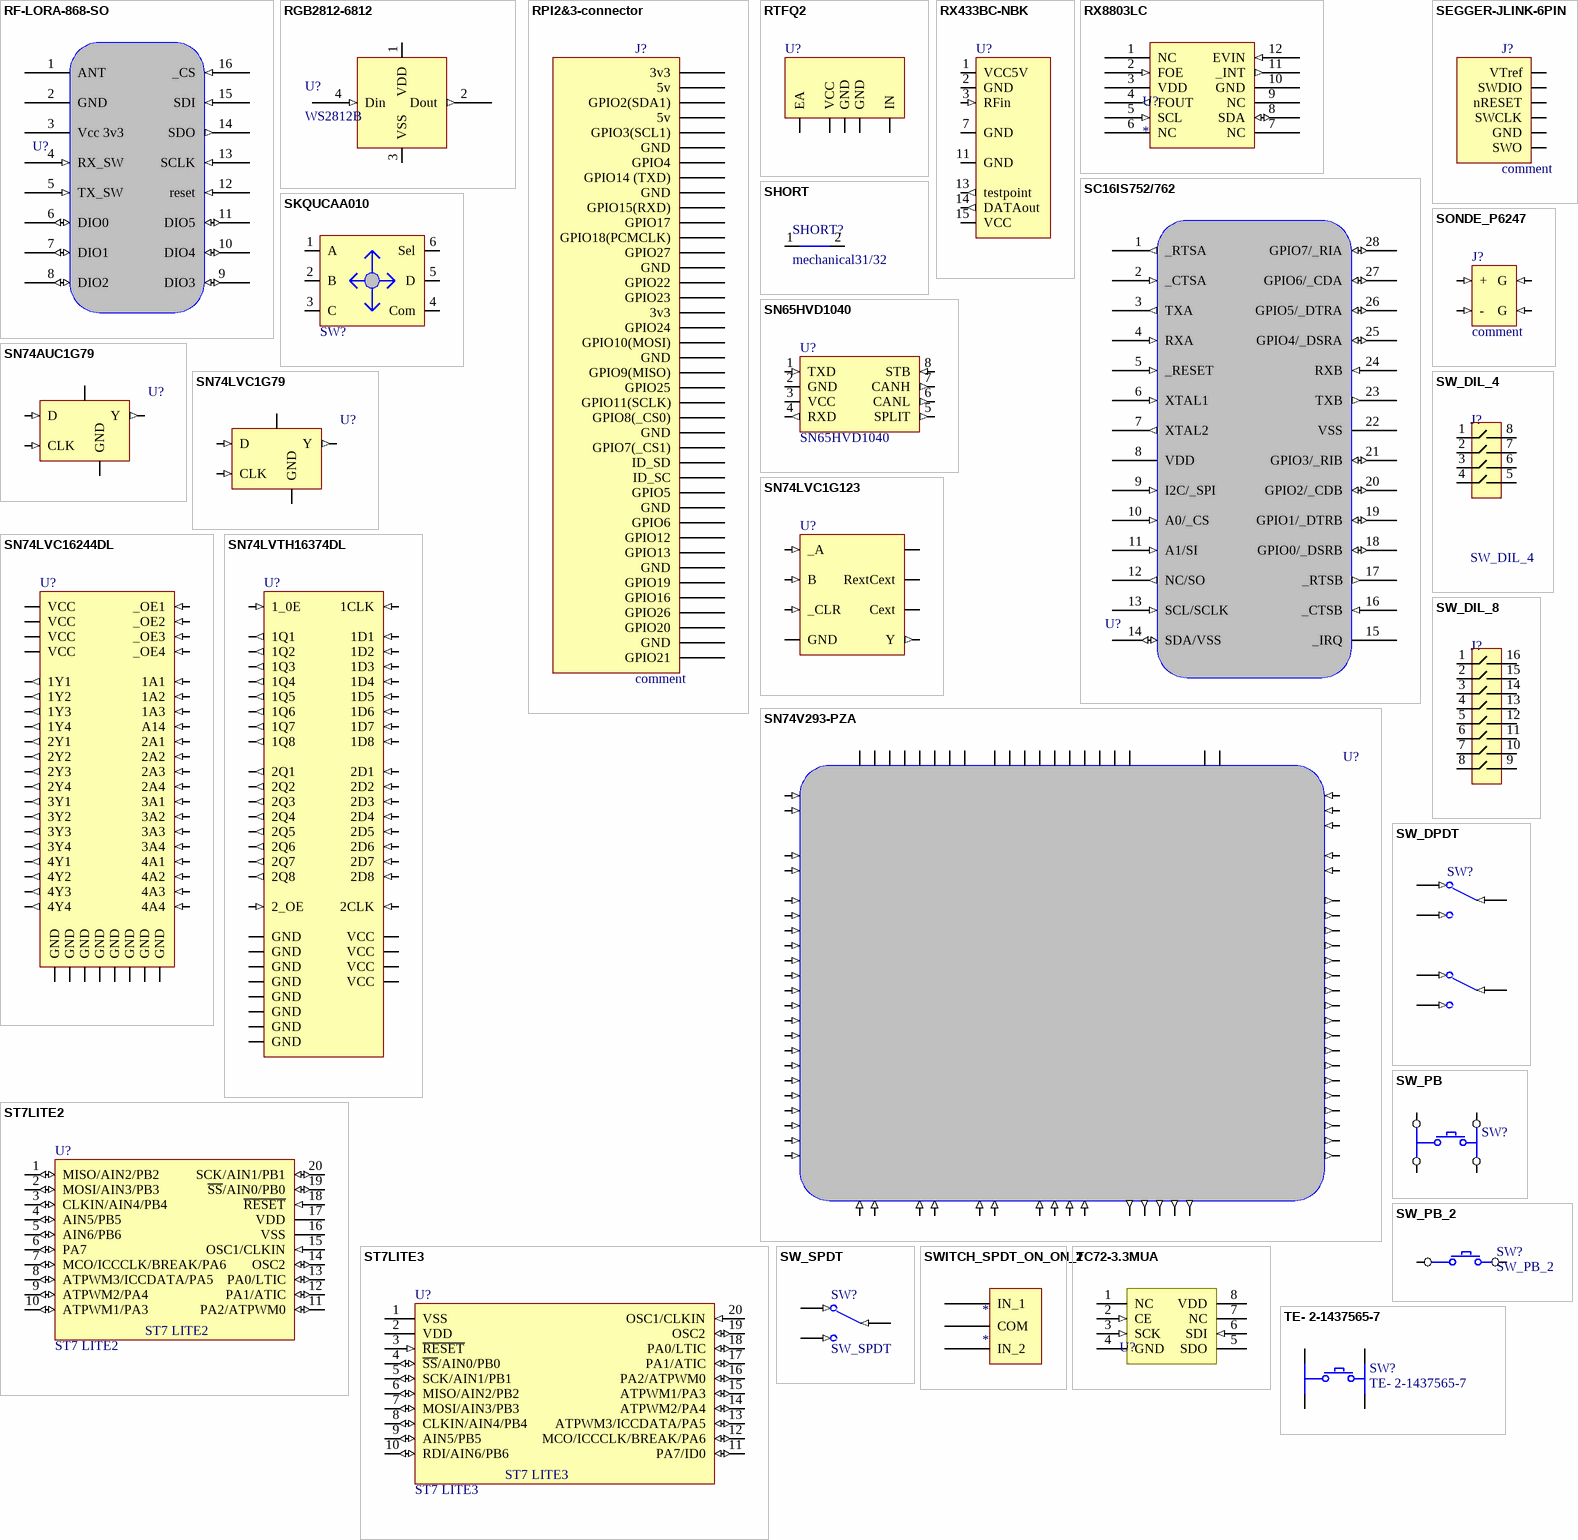
[diagram p7: symbols RF-LORA-868-SO to TE- 2-1437565-7]

## RF-LORA-868-SO
designator U?  (value not drawn)
footprint RF-LORA-868-SO
footprint RF-LORA-868-DIP
pins: 1 ANT, 2 GND (power), 3 Vcc 3v3 (power), 4 RX_SW (in), 5 TX_SW (in), 6 DIO0 (io), 7 DIO1 (io), 8 DIO2 (io), 9 DIO3 (io), 10 DIO4 (io), 11 DIO5 (io), 12 reset (in), 13 SCLK (in), 14 SDO (out), 15 SDI (in), 16 _CS (in)

## RGB2812-6812
designator U?, comment WS2812B
footprint RGB2812-6812
pins: 1 VDD (power), 2 Dout (out), 3 VSS (power), 4 Din (in)

## RPI2&3-connector
designator J?, comment comment
Raspberry 2 & 3 connector
footprint HE10-40V
footprint HE10-40V-fem-pcb-socket
footprint HE10-40H
footprint HE10-40V-lock
footprint M20-78320xx-bottom
footprint M20-78320xx-top
pins: 1 3v3, 2 5v, 3 GPIO2(SDA1), 4 5v, 5 GPIO3(SCL1), 6 GND, 7 GPIO4, 8 GPIO14 (TXD), 9 GND, 10 GPIO15(RXD), 11 GPIO17, 12 GPIO18(PCMCLK), 13 GPIO27, 14 GND, 15 GPIO22, 16 GPIO23, 17 3v3, 18 GPIO24, 19 GPIO10(MOSI), 20 GND, 21 GPIO9(MISO), 22 GPIO25, 23 GPIO11(SCLK), 24 GPIO8(_CS0), 25 GND, 26 GPIO7(_CS1), 27 ID_SD, 28 ID_SC, 29 GPIO5, 30 GND, 31 GPIO6, 32 GPIO12, 33 GPIO13, 34 GND, 35 GPIO19, 36 GPIO16, 37 GPIO26, 38 GPIO20, 39 GND, 40 GPIO21

## RTFQ2
designator U?
footprint RTFQ2
pins: 1 GND, 2 EA, 3 VCC, 4 GND, 5 IN

## RX433BC-NBK
designator U?
footprint RX433BC-NBK
pins: 1 VCC5V (power), 2 GND (power), 3 RFin (in), 7 GND (power), 11 GND (power), 13 testpoint (out), 14 DATAout (out), 15 VCC (power)

## RX8803LC
designator U?
RX8803LC
footprint VSOJ-20
pins: 1 NC, 2 FOE (in), 3 VDD (power), 4 FOUT (out), 5 SCL (in), 6 NC, 7 NC, 8 SDA (io), 9 NC, 10 GND (power), 11 _INT (out), 12 EVIN (in)

## SC16IS752/762
designator U?  (value not drawn)
footprint TSSOP28
pins: 1 _RTSA (out), 2 _CTSA (in), 3 TXA (out), 4 RXA (in), 5 _RESET (in), 6 XTAL1 (in), 7 XTAL2 (out), 8 VDD (power), 9 I2C/_SPI (in), 10 A0/_CS (in), 11 A1/SI (in), 12 NC/SO (out), 13 SCL/SCLK (in), 14 SDA/VSS (io), 15 _IRQ (oc), 16 _CTSB (in), 17 _RTSB (out), 18 GPIO0/_DSRB (io), 19 GPIO1/_DTRB (io), 20 GPIO2/_CDB (io), 21 GPIO3/_RIB (io), 22 VSS (power), 23 TXB (out), 24 RXB (in), 25 GPIO4/_DSRA (io), 26 GPIO5/_DTRA (io), 27 GPIO6/_CDA (io), 28 GPIO7/_RIA (io)

## SEGGER-JLINK-6PIN
designator J?, comment comment
footprint SEGGER-JLINK-6PIN
pins: 1 VTref, 2 SWDIO, 3 nRESET, 4 SWCLK, 5 GND, 6 SWO

## SHORT
designator SHORT?, comment mechanical31/32
footprint SHORT
pins: 1, 2

## SKQUCAA010
designator SW?
footprint SKQUCAA010
pins: 1 A, 2 B, 3 C, 4 Com, 5 D, 6 Sel

## SN65HVD1040
designator U?
footprint SO8
pins: 1 TXD (in), 2 GND (power), 3 VCC (power), 4 RXD (out), 5 SPLIT (out), 6 CANL (out), 7 CANH (out), 8 STB (in)

## SN74AUC1G79
designator U?
footprint TI_DCK
pins: 1 D (in), 2 CLK (in), 3 GND (power), 4 Y (out), 5 VCC (power)

## SN74LVC1G79
designator U?
footprint TI_DCK
pins: 1 D (in), 2 CLK (in), 3 GND (power), 4 Y (out), 5 VCC (power)

## SN74LVC1G123
designator U?
retrig monostable
footprint TI_DCT
pins: 1 _A (in), 2 B (in), 3 _CLR (in), 4 GND (power), 5 Y (out), 6 Cext, 7 RextCext, 8 VCC (power)